# Altium integrated library Cypress PLD Ultra37000.IntLib: 166 symbols (part 3 of 12)
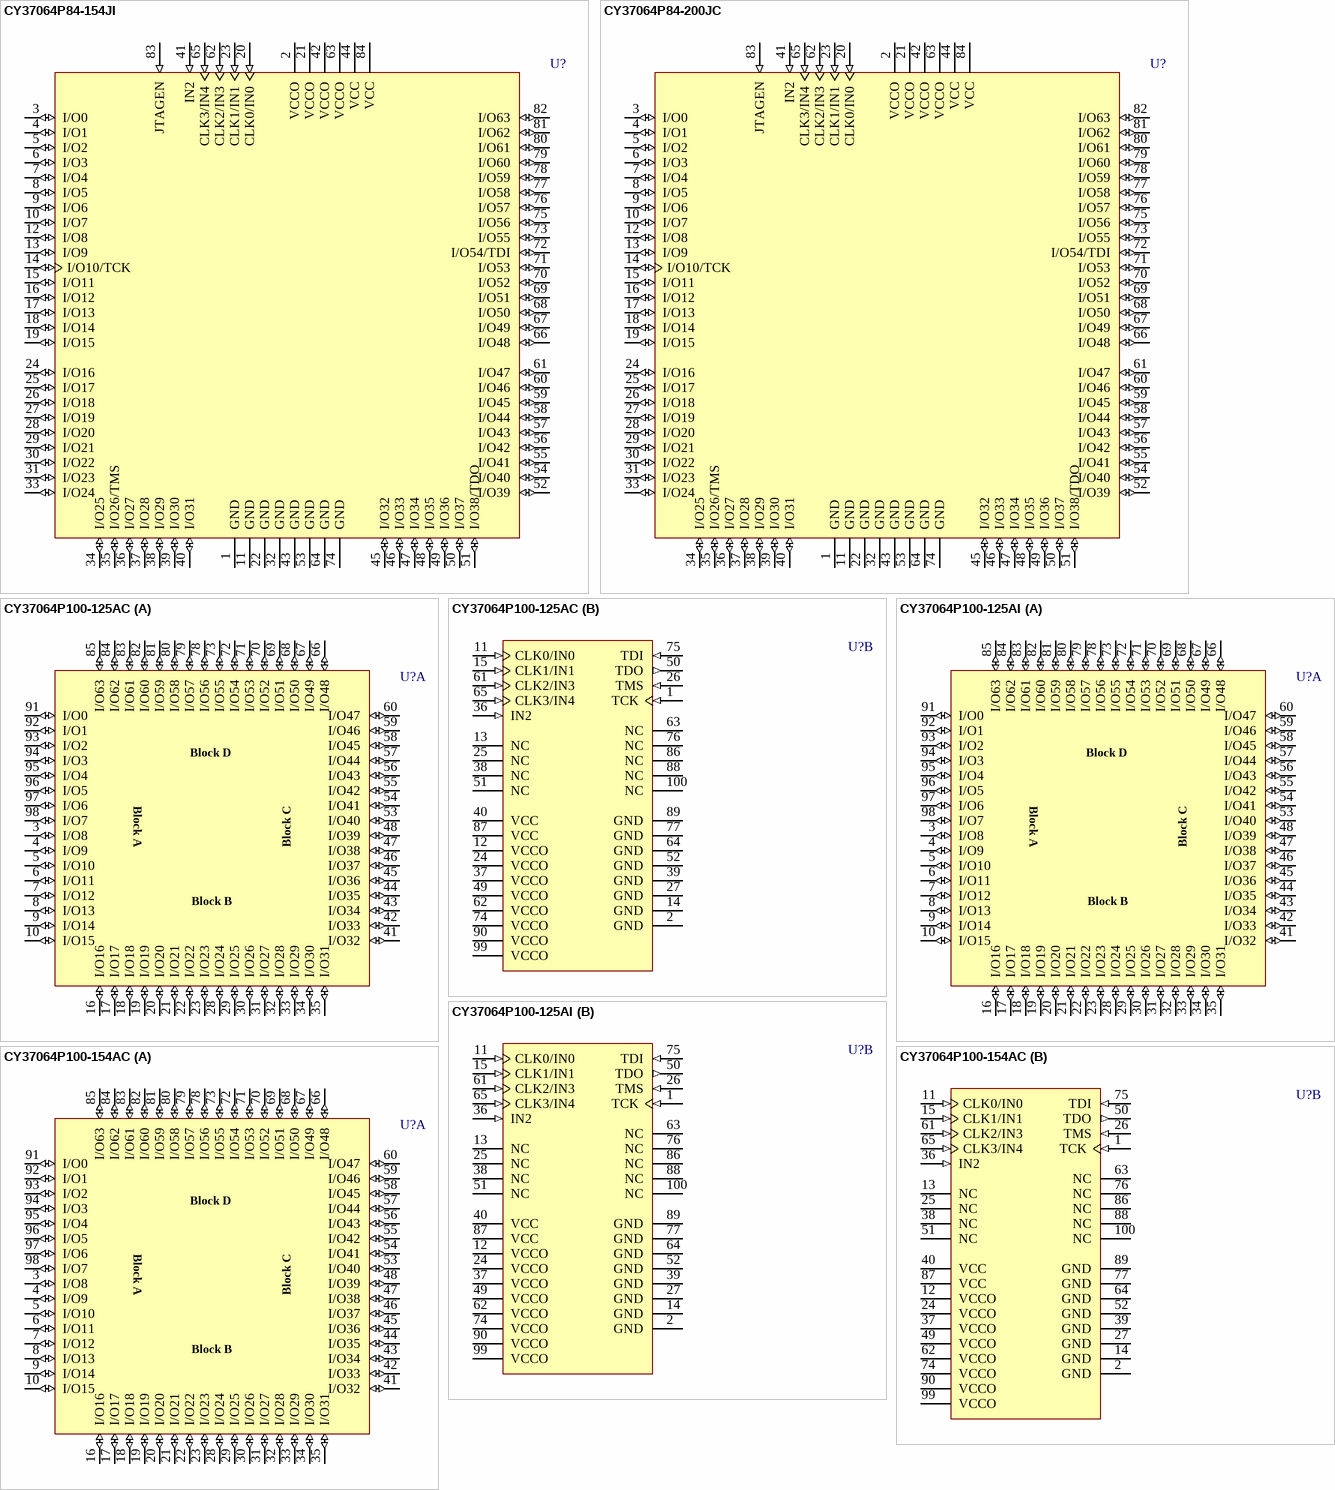
[diagram p92: symbols CY37064P84-154JI to CY37064P100-154AC]

## CY37064P100-154AC
designator U?
Ultra37000 5V, ISR High-Performance CPLD; Published: 11-Dec-2002; LatestRevisionDate: 13-Apr-2006; LatestRevisionNote: IPC-7351 Footprint Added.; DatasheetVersion: 18-Apr-2001; PackageVersion: Mar-2001; PackageReference: A100; Publisher: Altium Limited; PackageDescription: 100-Pin Thin Quad Flat Pack 0.5 mm Pitch; ComponentLink1Description: Manufacturer Link; ComponentLink1URL: http://www.cypress.com/; ComponentLink2Description: Datasheet; ComponentLink2URL: http://www.cypress.com/portal/server.pt/gateway/PTARGS_0_2_1524_209_259_43/http%3B/sjapp20.mis.cypress.com%3B7001/publishedcontent/publish/design_resources/datasheets/contents/cy37032p_5.pdf
footprint A100_N (Thin QFP, 100-Leads, Body 14x14mm, Pitch 0.5mm, IPC Medium Density)
footprint A100_L (Thin QFP, 100-Leads, Body 14x14mm, Pitch 0.5mm, IPC High Density)
footprint A100_M (Thin QFP, 100-Leads, Body 14x14mm, Pitch 0.5mm, IPC Low Density)
3D model CY37064P100-A100 (100-Pin Thin Quad Flat Pack 0.5 mm Pitch)
part A pins: 3 I/O8 (io), 4 I/O9 (io), 5 I/O10 (io), 6 I/O11 (io), 7 I/O12 (io), 8 I/O13 (io), 9 I/O14 (io), 10 I/O15 (io), 16 I/O16 (io), 17 I/O17 (io), 18 I/O18 (io), 19 I/O19 (io), 20 I/O20 (io), 21 I/O21 (io), 22 I/O22 (io), 23 I/O23 (io), 28 I/O24 (io), 29 I/O25 (io), 30 I/O26 (io), 31 I/O27 (io), 32 I/O28 (io), 33 I/O29 (io), 34 I/O30 (io), 35 I/O31 (io), 41 I/O32 (io), 42 I/O33 (io), 43 I/O34 (io), 44 I/O35 (io), 45 I/O36 (io), 46 I/O37 (io), 47 I/O38 (io), 48 I/O39 (io), 53 I/O40 (io), 54 I/O41 (io), 55 I/O42 (io), 56 I/O43 (io), 57 I/O44 (io), 58 I/O45 (io), 59 I/O46 (io), 60 I/O47 (io), 66 I/O48 (io), 67 I/O49 (io), 68 I/O50 (io), 69 I/O51 (io), 70 I/O52 (io), 71 I/O53 (io), 72 I/O54 (io), 73 I/O55 (io), 78 I/O56 (io), 79 I/O57 (io), 80 I/O58 (io), 81 I/O59 (io), 82 I/O60 (io), 83 I/O61 (io), 84 I/O62 (io), 85 I/O63 (io), 91 I/O0 (io), 92 I/O1 (io), 93 I/O2 (io), 94 I/O3 (io), 95 I/O4 (io), 96 I/O5 (io), 97 I/O6 (io), 98 I/O7 (io)
part B pins: 1 TCK (in), 2 GND (power), 11 CLK0/IN0 (in), 12 VCCO (power), 13 NC, 14 GND (power), 15 CLK1/IN1 (in), 24 VCCO (power), 25 NC, 26 TMS (in), 27 GND (power), 36 IN2 (in), 37 VCCO (power), 38 NC, 39 GND (power), 40 VCC (power), 49 VCCO (power), 50 TDO (out), 51 NC, 52 GND (power), 61 CLK2/IN3 (in), 62 VCCO (power), 63 NC, 64 GND (power), 65 CLK3/IN4 (in), 74 VCCO (power), 75 TDI (in), 76 NC, 77 GND (power), 86 NC, 87 VCC (power), 88 NC, 89 GND (power), 90 VCCO (power), 99 VCCO (power), 100 NC
part A text: Block D; Block A; Block C; Block B

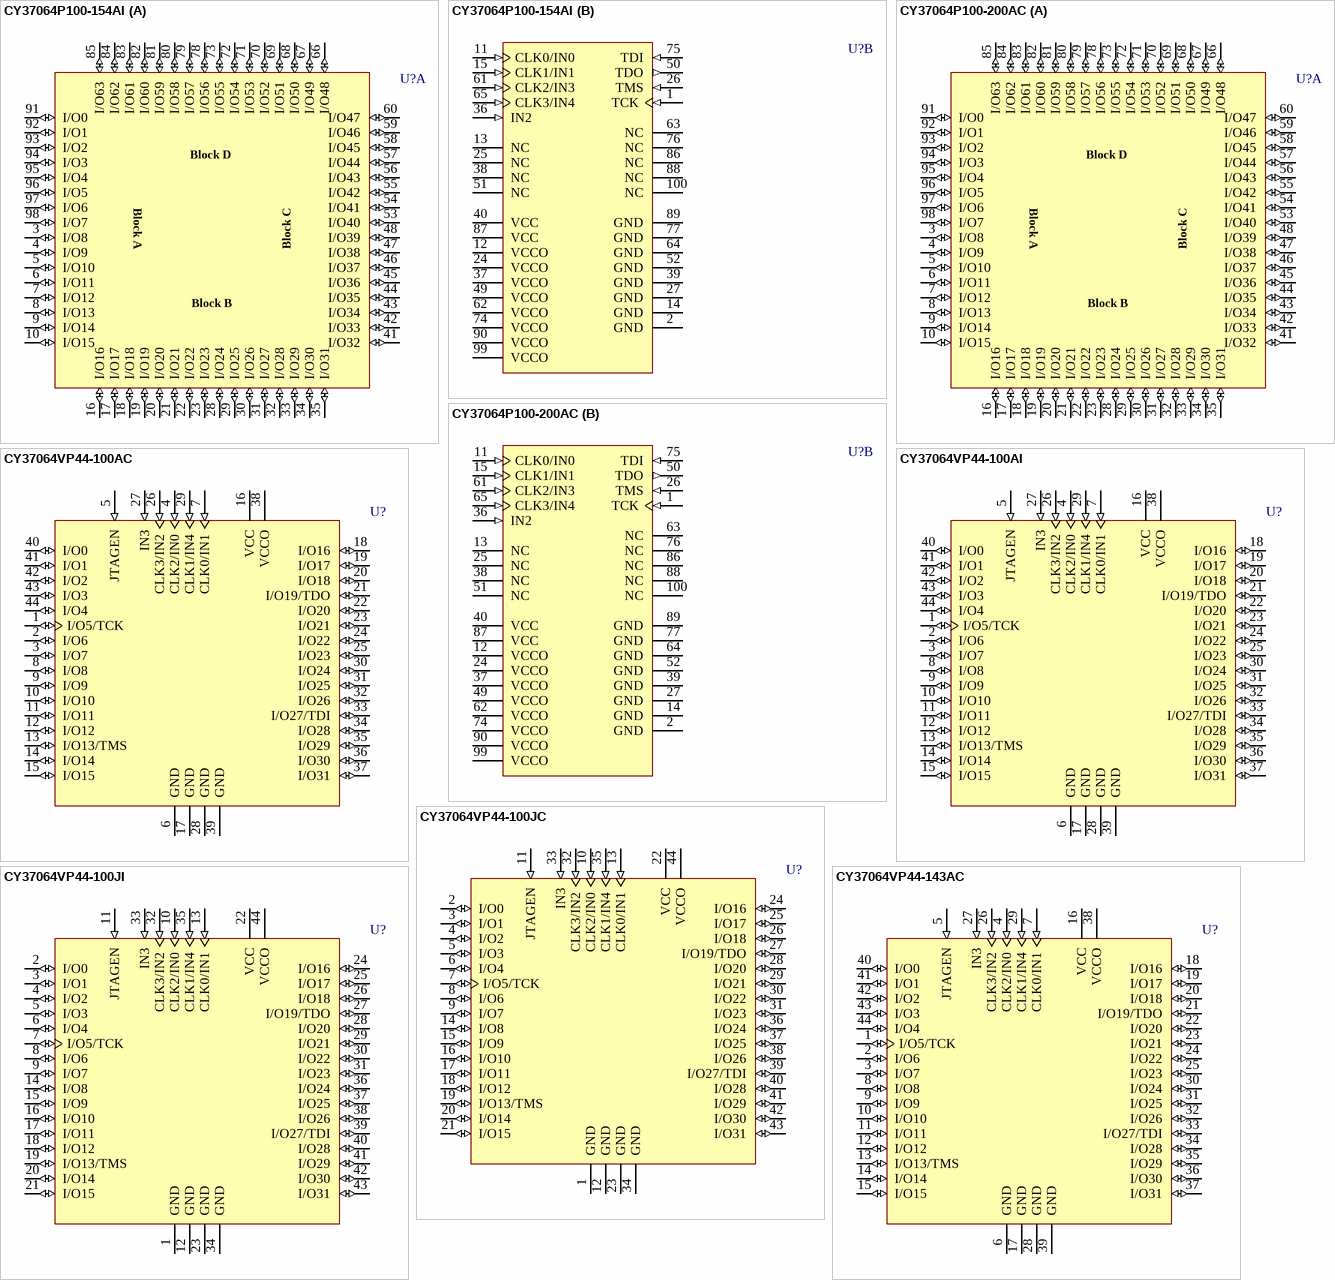
[diagram p10: symbols CY37064P100-154AI to CY37064VP44-143AC]

## CY37064P100-154AI
designator U?
Ultra37000 5V, ISR High-Performance CPLD; Published: 11-Dec-2002; LatestRevisionDate: 13-Apr-2006; LatestRevisionNote: IPC-7351 Footprint Added.; DatasheetVersion: 18-Apr-2001; PackageVersion: Mar-2001; PackageReference: A100; Publisher: Altium Limited; PackageDescription: 100-Pin Thin Quad Flat Pack 0.5 mm Pitch; ComponentLink1Description: Manufacturer Link; ComponentLink1URL: http://www.cypress.com/; ComponentLink2Description: Datasheet; ComponentLink2URL: http://www.cypress.com/portal/server.pt/gateway/PTARGS_0_2_1524_209_259_43/http%3B/sjapp20.mis.cypress.com%3B7001/publishedcontent/publish/design_resources/datasheets/contents/cy37032p_5.pdf
footprint A100_N (Thin QFP, 100-Leads, Body 14x14mm, Pitch 0.5mm, IPC Medium Density)
footprint A100_L (Thin QFP, 100-Leads, Body 14x14mm, Pitch 0.5mm, IPC High Density)
footprint A100_M (Thin QFP, 100-Leads, Body 14x14mm, Pitch 0.5mm, IPC Low Density)
3D model CY37064P100-A100 (100-Pin Thin Quad Flat Pack 0.5 mm Pitch)
part A pins: 3 I/O8 (io), 4 I/O9 (io), 5 I/O10 (io), 6 I/O11 (io), 7 I/O12 (io), 8 I/O13 (io), 9 I/O14 (io), 10 I/O15 (io), 16 I/O16 (io), 17 I/O17 (io), 18 I/O18 (io), 19 I/O19 (io), 20 I/O20 (io), 21 I/O21 (io), 22 I/O22 (io), 23 I/O23 (io), 28 I/O24 (io), 29 I/O25 (io), 30 I/O26 (io), 31 I/O27 (io), 32 I/O28 (io), 33 I/O29 (io), 34 I/O30 (io), 35 I/O31 (io), 41 I/O32 (io), 42 I/O33 (io), 43 I/O34 (io), 44 I/O35 (io), 45 I/O36 (io), 46 I/O37 (io), 47 I/O38 (io), 48 I/O39 (io), 53 I/O40 (io), 54 I/O41 (io), 55 I/O42 (io), 56 I/O43 (io), 57 I/O44 (io), 58 I/O45 (io), 59 I/O46 (io), 60 I/O47 (io), 66 I/O48 (io), 67 I/O49 (io), 68 I/O50 (io), 69 I/O51 (io), 70 I/O52 (io), 71 I/O53 (io), 72 I/O54 (io), 73 I/O55 (io), 78 I/O56 (io), 79 I/O57 (io), 80 I/O58 (io), 81 I/O59 (io), 82 I/O60 (io), 83 I/O61 (io), 84 I/O62 (io), 85 I/O63 (io), 91 I/O0 (io), 92 I/O1 (io), 93 I/O2 (io), 94 I/O3 (io), 95 I/O4 (io), 96 I/O5 (io), 97 I/O6 (io), 98 I/O7 (io)
part B pins: 1 TCK (in), 2 GND (power), 11 CLK0/IN0 (in), 12 VCCO (power), 13 NC, 14 GND (power), 15 CLK1/IN1 (in), 24 VCCO (power), 25 NC, 26 TMS (in), 27 GND (power), 36 IN2 (in), 37 VCCO (power), 38 NC, 39 GND (power), 40 VCC (power), 49 VCCO (power), 50 TDO (out), 51 NC, 52 GND (power), 61 CLK2/IN3 (in), 62 VCCO (power), 63 NC, 64 GND (power), 65 CLK3/IN4 (in), 74 VCCO (power), 75 TDI (in), 76 NC, 77 GND (power), 86 NC, 87 VCC (power), 88 NC, 89 GND (power), 90 VCCO (power), 99 VCCO (power), 100 NC
part A text: Block D; Block A; Block C; Block B

## CY37064P100-200AC
designator U?
Ultra37000 5V, ISR High-Performance CPLD; Published: 11-Dec-2002; LatestRevisionDate: 13-Apr-2006; LatestRevisionNote: IPC-7351 Footprint Added.; DatasheetVersion: 18-Apr-2001; PackageVersion: Mar-2001; PackageReference: A100; Publisher: Altium Limited; PackageDescription: 100-Pin Thin Quad Flat Pack 0.5 mm Pitch; ComponentLink1Description: Manufacturer Link; ComponentLink1URL: http://www.cypress.com/; ComponentLink2Description: Datasheet; ComponentLink2URL: http://www.cypress.com/portal/server.pt/gateway/PTARGS_0_2_1524_209_259_43/http%3B/sjapp20.mis.cypress.com%3B7001/publishedcontent/publish/design_resources/datasheets/contents/cy37032p_5.pdf
footprint A100_N (Thin QFP, 100-Leads, Body 14x14mm, Pitch 0.5mm, IPC Medium Density)
footprint A100_L (Thin QFP, 100-Leads, Body 14x14mm, Pitch 0.5mm, IPC High Density)
footprint A100_M (Thin QFP, 100-Leads, Body 14x14mm, Pitch 0.5mm, IPC Low Density)
3D model CY37064P100-A100 (100-Pin Thin Quad Flat Pack 0.5 mm Pitch)
part A pins: 3 I/O8 (io), 4 I/O9 (io), 5 I/O10 (io), 6 I/O11 (io), 7 I/O12 (io), 8 I/O13 (io), 9 I/O14 (io), 10 I/O15 (io), 16 I/O16 (io), 17 I/O17 (io), 18 I/O18 (io), 19 I/O19 (io), 20 I/O20 (io), 21 I/O21 (io), 22 I/O22 (io), 23 I/O23 (io), 28 I/O24 (io), 29 I/O25 (io), 30 I/O26 (io), 31 I/O27 (io), 32 I/O28 (io), 33 I/O29 (io), 34 I/O30 (io), 35 I/O31 (io), 41 I/O32 (io), 42 I/O33 (io), 43 I/O34 (io), 44 I/O35 (io), 45 I/O36 (io), 46 I/O37 (io), 47 I/O38 (io), 48 I/O39 (io), 53 I/O40 (io), 54 I/O41 (io), 55 I/O42 (io), 56 I/O43 (io), 57 I/O44 (io), 58 I/O45 (io), 59 I/O46 (io), 60 I/O47 (io), 66 I/O48 (io), 67 I/O49 (io), 68 I/O50 (io), 69 I/O51 (io), 70 I/O52 (io), 71 I/O53 (io), 72 I/O54 (io), 73 I/O55 (io), 78 I/O56 (io), 79 I/O57 (io), 80 I/O58 (io), 81 I/O59 (io), 82 I/O60 (io), 83 I/O61 (io), 84 I/O62 (io), 85 I/O63 (io), 91 I/O0 (io), 92 I/O1 (io), 93 I/O2 (io), 94 I/O3 (io), 95 I/O4 (io), 96 I/O5 (io), 97 I/O6 (io), 98 I/O7 (io)
part B pins: 1 TCK (in), 2 GND (power), 11 CLK0/IN0 (in), 12 VCCO (power), 13 NC, 14 GND (power), 15 CLK1/IN1 (in), 24 VCCO (power), 25 NC, 26 TMS (in), 27 GND (power), 36 IN2 (in), 37 VCCO (power), 38 NC, 39 GND (power), 40 VCC (power), 49 VCCO (power), 50 TDO (out), 51 NC, 52 GND (power), 61 CLK2/IN3 (in), 62 VCCO (power), 63 NC, 64 GND (power), 65 CLK3/IN4 (in), 74 VCCO (power), 75 TDI (in), 76 NC, 77 GND (power), 86 NC, 87 VCC (power), 88 NC, 89 GND (power), 90 VCCO (power), 99 VCCO (power), 100 NC
part A text: Block D; Block A; Block C; Block B

## CY37064VP44-100AC
designator U?
Ultra37000 3.3V, ISR High-Performance CPLD; Published: 11-Dec-2002; LatestRevisionDate: 13-Apr-2006; LatestRevisionNote: IPC-7351 Footprint Added.; DatasheetVersion: 18-Apr-2001; PackageVersion: Mar-2002; PackageReference: A44; Publisher: Altium Limited; PackageDescription: 44-Pin Thin Plastic Quad Flat Pack 0.8 mm Pitch; ComponentLink1Description: Manufacturer Link; ComponentLink1URL: http://www.cypress.com/; ComponentLink2Description: Datasheet; ComponentLink2URL: http://www.cypress.com/portal/server.pt/gateway/PTARGS_0_2_1524_209_259_43/http%3B/sjapp20.mis.cypress.com%3B7001/publishedcontent/publish/design_resources/datasheets/contents/cy37032p_5.pdf
footprint A44_N (Thin QFP, 44-Leads, Body 10x10mm, Pitch 0.8mm, IPC Medium Density)
footprint A44_L (Thin QFP, 44-Leads, Body 10x10mm, Pitch 0.8mm, IPC High Density)
footprint A44_M (Thin QFP, 44-Leads, Body 10x10mm, Pitch 0.8mm, IPC Low Density)
3D model CY37064VP44-A44 (44-Pin Thin Plastic Quad Flat Pack 0.8 mm Pitch)
pins: 1 I/O5/TCK (io), 2 I/O6 (io), 3 I/O7 (io), 4 CLK2/IN0 (in), 5 JTAGEN (in), 6 GND (power), 7 CLK0/IN1 (in), 8 I/O8 (io), 9 I/O9 (io), 10 I/O10 (io), 11 I/O11 (io), 12 I/O12 (io), 13 I/O13/TMS (io), 14 I/O14 (io), 15 I/O15 (io), 16 VCC (power), 17 GND (power), 18 I/O16 (io), 19 I/O17 (io), 20 I/O18 (io), 21 I/O19/TDO (io), 22 I/O20 (io), 23 I/O21 (io), 24 I/O22 (io), 25 I/O23 (io), 26 CLK3/IN2 (in), 27 IN3 (in), 28 GND (power), 29 CLK1/IN4 (in), 30 I/O24 (io), 31 I/O25 (io), 32 I/O26 (io), 33 I/O27/TDI (io), 34 I/O28 (io), 35 I/O29 (io), 36 I/O30 (io), 37 I/O31 (io), 38 VCCO (power), 39 GND (power), 40 I/O0 (io), 41 I/O1 (io), 42 I/O2 (io), 43 I/O3 (io), 44 I/O4 (io)

## CY37064VP44-100AI
designator U?
Ultra37000 3.3V, ISR High-Performance CPLD; Published: 11-Dec-2002; LatestRevisionDate: 13-Apr-2006; LatestRevisionNote: IPC-7351 Footprint Added.; DatasheetVersion: 18-Apr-2001; PackageVersion: Mar-2002; PackageReference: A44; Publisher: Altium Limited; PackageDescription: 44-Pin Thin Plastic Quad Flat Pack 0.8 mm Pitch; ComponentLink1Description: Manufacturer Link; ComponentLink1URL: http://www.cypress.com/; ComponentLink2Description: Datasheet; ComponentLink2URL: http://www.cypress.com/portal/server.pt/gateway/PTARGS_0_2_1524_209_259_43/http%3B/sjapp20.mis.cypress.com%3B7001/publishedcontent/publish/design_resources/datasheets/contents/cy37032p_5.pdf
footprint A44_N (Thin QFP, 44-Leads, Body 10x10mm, Pitch 0.8mm, IPC Medium Density)
footprint A44_L (Thin QFP, 44-Leads, Body 10x10mm, Pitch 0.8mm, IPC High Density)
footprint A44_M (Thin QFP, 44-Leads, Body 10x10mm, Pitch 0.8mm, IPC Low Density)
3D model CY37064VP44-A44 (44-Pin Thin Plastic Quad Flat Pack 0.8 mm Pitch)
pins: 1 I/O5/TCK (io), 2 I/O6 (io), 3 I/O7 (io), 4 CLK2/IN0 (in), 5 JTAGEN (in), 6 GND (power), 7 CLK0/IN1 (in), 8 I/O8 (io), 9 I/O9 (io), 10 I/O10 (io), 11 I/O11 (io), 12 I/O12 (io), 13 I/O13/TMS (io), 14 I/O14 (io), 15 I/O15 (io), 16 VCC (power), 17 GND (power), 18 I/O16 (io), 19 I/O17 (io), 20 I/O18 (io), 21 I/O19/TDO (io), 22 I/O20 (io), 23 I/O21 (io), 24 I/O22 (io), 25 I/O23 (io), 26 CLK3/IN2 (in), 27 IN3 (in), 28 GND (power), 29 CLK1/IN4 (in), 30 I/O24 (io), 31 I/O25 (io), 32 I/O26 (io), 33 I/O27/TDI (io), 34 I/O28 (io), 35 I/O29 (io), 36 I/O30 (io), 37 I/O31 (io), 38 VCCO (power), 39 GND (power), 40 I/O0 (io), 41 I/O1 (io), 42 I/O2 (io), 43 I/O3 (io), 44 I/O4 (io)

## CY37064VP44-100JC
designator U?
Ultra37000 3.3V, ISR High-Performance CPLD; ComponentAvailability: Obsolete; Published: 11-Dec-2002; LatestRevisionDate: 13-Apr-2006; LatestRevisionNote: IPC-7351 Footprint Added.; DatasheetVersion: 18-Apr-2001; PackageVersion: Mar-2001; PackageReference: J67; Publisher: Altium Limited; PackageDescription: 44-Pin Plastic Leaded Chip Carrier 1.27 mm Pitch; ComponentLink1Description: Manufacturer Link; ComponentLink1URL: http://www.cypress.com/; ComponentLink2Description: Datasheet; ComponentLink2URL: http://www.cypress.com/portal/server.pt/gateway/PTARGS_0_2_1524_209_259_43/http%3B/sjapp20.mis.cypress.com%3B7001/publishedcontent/publish/design_resources/datasheets/contents/cy37032p_5.pdf
footprint J67_N (Leaded Chip Carrier, 44-Leads, Body 16.6x16.6mm, Pitch 1.27mm, IPC Medium Density)
footprint J67_L (Leaded Chip Carrier, 44-Leads, Body 16.6x16.6mm, Pitch 1.27mm, IPC High Density)
footprint J67_M (Leaded Chip Carrier, 44-Leads, Body 16.6x16.6mm, Pitch 1.27mm, IPC Low Density)
3D model CY37064VP44-J67 (44-Pin Plastic Leaded Chip Carrier 1.27 mm Pitch)
pins: 1 GND (power), 2 I/O0 (io), 3 I/O1 (io), 4 I/O2 (io), 5 I/O3 (io), 6 I/O4 (io), 7 I/O5/TCK (io), 8 I/O6 (io), 9 I/O7 (io), 10 CLK2/IN0 (in), 11 JTAGEN (in), 12 GND (power), 13 CLK0/IN1 (in), 14 I/O8 (io), 15 I/O9 (io), 16 I/O10 (io), 17 I/O11 (io), 18 I/O12 (io), 19 I/O13/TMS (io), 20 I/O14 (io), 21 I/O15 (io), 22 VCC (power), 23 GND (power), 24 I/O16 (io), 25 I/O17 (io), 26 I/O18 (io), 27 I/O19/TDO (io), 28 I/O20 (io), 29 I/O21 (io), 30 I/O22 (io), 31 I/O23 (io), 32 CLK3/IN2 (in), 33 IN3 (in), 34 GND (power), 35 CLK1/IN4 (in), 36 I/O24 (io), 37 I/O25 (io), 38 I/O26 (io), 39 I/O27/TDI (io), 40 I/O28 (io), 41 I/O29 (io), 42 I/O30 (io), 43 I/O31 (io), 44 VCCO (power)

## CY37064VP44-100JI
designator U?
Ultra37000 3.3V, ISR High-Performance CPLD; ComponentAvailability: Obsolete; Published: 11-Dec-2002; LatestRevisionDate: 13-Apr-2006; LatestRevisionNote: IPC-7351 Footprint Added.; DatasheetVersion: 18-Apr-2001; PackageVersion: Mar-2001; PackageReference: J67; Publisher: Altium Limited; PackageDescription: 44-Pin Plastic Leaded Chip Carrier 1.27 mm Pitch; ComponentLink1Description: Manufacturer Link; ComponentLink1URL: http://www.cypress.com/; ComponentLink2Description: Datasheet; ComponentLink2URL: http://www.cypress.com/portal/server.pt/gateway/PTARGS_0_2_1524_209_259_43/http%3B/sjapp20.mis.cypress.com%3B7001/publishedcontent/publish/design_resources/datasheets/contents/cy37032p_5.pdf
footprint J67_N (Leaded Chip Carrier, 44-Leads, Body 16.6x16.6mm, Pitch 1.27mm, IPC Medium Density)
footprint J67_L (Leaded Chip Carrier, 44-Leads, Body 16.6x16.6mm, Pitch 1.27mm, IPC High Density)
footprint J67_M (Leaded Chip Carrier, 44-Leads, Body 16.6x16.6mm, Pitch 1.27mm, IPC Low Density)
3D model CY37064VP44-J67 (44-Pin Plastic Leaded Chip Carrier 1.27 mm Pitch)
pins: 1 GND (power), 2 I/O0 (io), 3 I/O1 (io), 4 I/O2 (io), 5 I/O3 (io), 6 I/O4 (io), 7 I/O5/TCK (io), 8 I/O6 (io), 9 I/O7 (io), 10 CLK2/IN0 (in), 11 JTAGEN (in), 12 GND (power), 13 CLK0/IN1 (in), 14 I/O8 (io), 15 I/O9 (io), 16 I/O10 (io), 17 I/O11 (io), 18 I/O12 (io), 19 I/O13/TMS (io), 20 I/O14 (io), 21 I/O15 (io), 22 VCC (power), 23 GND (power), 24 I/O16 (io), 25 I/O17 (io), 26 I/O18 (io), 27 I/O19/TDO (io), 28 I/O20 (io), 29 I/O21 (io), 30 I/O22 (io), 31 I/O23 (io), 32 CLK3/IN2 (in), 33 IN3 (in), 34 GND (power), 35 CLK1/IN4 (in), 36 I/O24 (io), 37 I/O25 (io), 38 I/O26 (io), 39 I/O27/TDI (io), 40 I/O28 (io), 41 I/O29 (io), 42 I/O30 (io), 43 I/O31 (io), 44 VCCO (power)

## CY37064VP44-143AC
designator U?
Ultra37000 3.3V, ISR High-Performance CPLD; Published: 11-Dec-2002; LatestRevisionDate: 13-Apr-2006; LatestRevisionNote: IPC-7351 Footprint Added.; DatasheetVersion: 18-Apr-2001; PackageVersion: Mar-2002; PackageReference: A44; Publisher: Altium Limited; PackageDescription: 44-Pin Thin Plastic Quad Flat Pack 0.8 mm Pitch; ComponentLink1Description: Manufacturer Link; ComponentLink1URL: http://www.cypress.com/; ComponentLink2Description: Datasheet; ComponentLink2URL: http://www.cypress.com/portal/server.pt/gateway/PTARGS_0_2_1524_209_259_43/http%3B/sjapp20.mis.cypress.com%3B7001/publishedcontent/publish/design_resources/datasheets/contents/cy37032p_5.pdf
footprint A44_N (Thin QFP, 44-Leads, Body 10x10mm, Pitch 0.8mm, IPC Medium Density)
footprint A44_L (Thin QFP, 44-Leads, Body 10x10mm, Pitch 0.8mm, IPC High Density)
footprint A44_M (Thin QFP, 44-Leads, Body 10x10mm, Pitch 0.8mm, IPC Low Density)
3D model CY37064VP44-A44 (44-Pin Thin Plastic Quad Flat Pack 0.8 mm Pitch)
pins: 1 I/O5/TCK (io), 2 I/O6 (io), 3 I/O7 (io), 4 CLK2/IN0 (in), 5 JTAGEN (in), 6 GND (power), 7 CLK0/IN1 (in), 8 I/O8 (io), 9 I/O9 (io), 10 I/O10 (io), 11 I/O11 (io), 12 I/O12 (io), 13 I/O13/TMS (io), 14 I/O14 (io), 15 I/O15 (io), 16 VCC (power), 17 GND (power), 18 I/O16 (io), 19 I/O17 (io), 20 I/O18 (io), 21 I/O19/TDO (io), 22 I/O20 (io), 23 I/O21 (io), 24 I/O22 (io), 25 I/O23 (io), 26 CLK3/IN2 (in), 27 IN3 (in), 28 GND (power), 29 CLK1/IN4 (in), 30 I/O24 (io), 31 I/O25 (io), 32 I/O26 (io), 33 I/O27/TDI (io), 34 I/O28 (io), 35 I/O29 (io), 36 I/O30 (io), 37 I/O31 (io), 38 VCCO (power), 39 GND (power), 40 I/O0 (io), 41 I/O1 (io), 42 I/O2 (io), 43 I/O3 (io), 44 I/O4 (io)

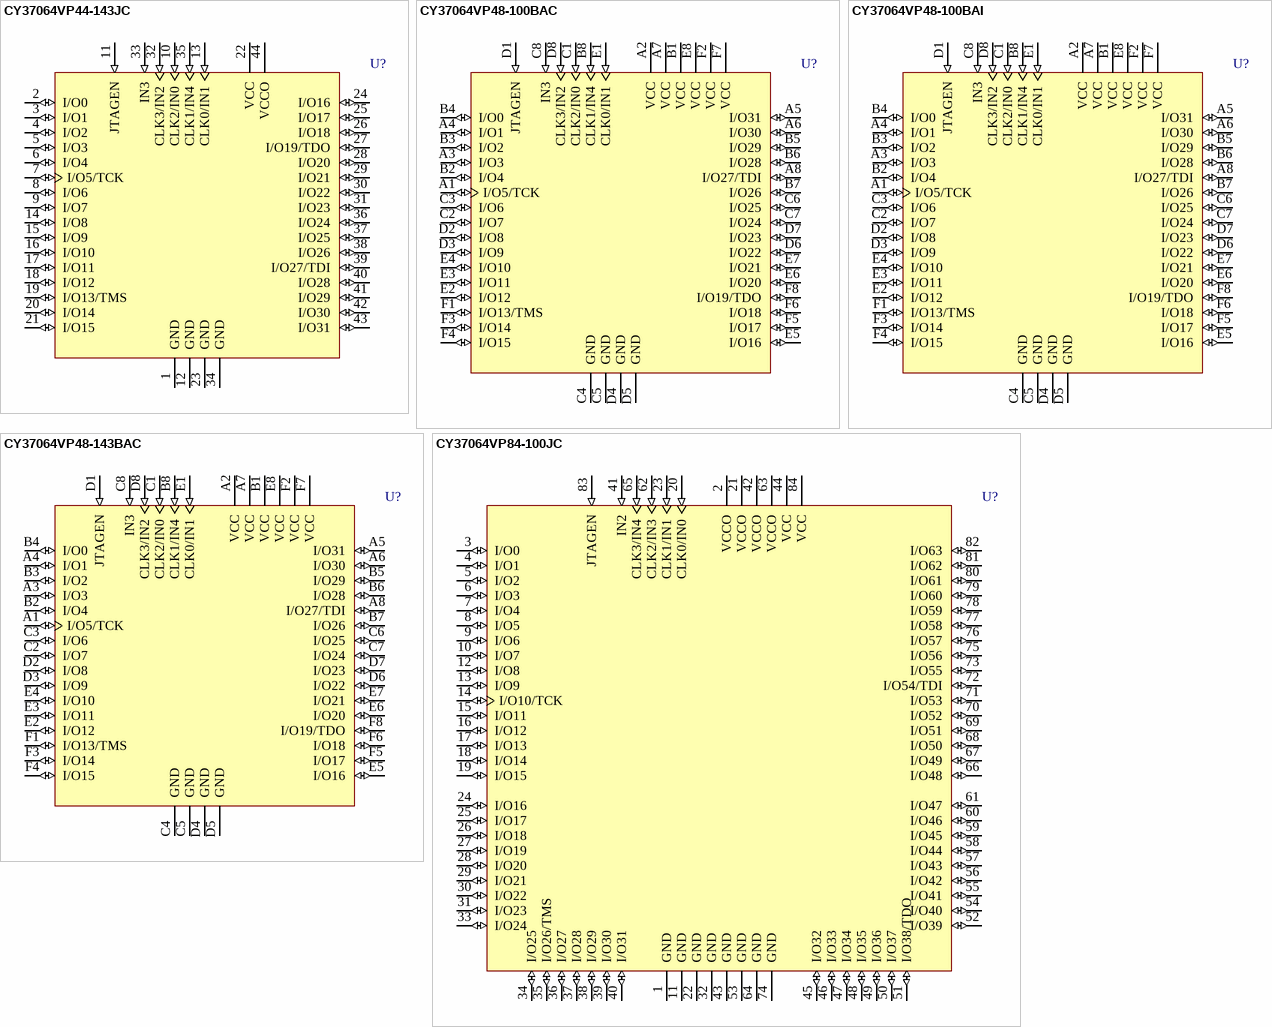
[diagram p11: symbols CY37064VP44-143JC to CY37064VP84-100JC]

## CY37064VP44-143JC
designator U?
Ultra37000 3.3V, ISR High-Performance CPLD; ComponentAvailability: Obsolete; Published: 11-Dec-2002; LatestRevisionDate: 13-Apr-2006; LatestRevisionNote: IPC-7351 Footprint Added.; DatasheetVersion: 18-Apr-2001; PackageVersion: Mar-2001; PackageReference: J67; Publisher: Altium Limited; PackageDescription: 44-Pin Plastic Leaded Chip Carrier 1.27 mm Pitch; ComponentLink1Description: Manufacturer Link; ComponentLink1URL: http://www.cypress.com/; ComponentLink2Description: Datasheet; ComponentLink2URL: http://www.cypress.com/portal/server.pt/gateway/PTARGS_0_2_1524_209_259_43/http%3B/sjapp20.mis.cypress.com%3B7001/publishedcontent/publish/design_resources/datasheets/contents/cy37032p_5.pdf
footprint J67_N (Leaded Chip Carrier, 44-Leads, Body 16.6x16.6mm, Pitch 1.27mm, IPC Medium Density)
footprint J67_L (Leaded Chip Carrier, 44-Leads, Body 16.6x16.6mm, Pitch 1.27mm, IPC High Density)
footprint J67_M (Leaded Chip Carrier, 44-Leads, Body 16.6x16.6mm, Pitch 1.27mm, IPC Low Density)
3D model CY37064VP44-J67 (44-Pin Plastic Leaded Chip Carrier 1.27 mm Pitch)
pins: 1 GND (power), 2 I/O0 (io), 3 I/O1 (io), 4 I/O2 (io), 5 I/O3 (io), 6 I/O4 (io), 7 I/O5/TCK (io), 8 I/O6 (io), 9 I/O7 (io), 10 CLK2/IN0 (in), 11 JTAGEN (in), 12 GND (power), 13 CLK0/IN1 (in), 14 I/O8 (io), 15 I/O9 (io), 16 I/O10 (io), 17 I/O11 (io), 18 I/O12 (io), 19 I/O13/TMS (io), 20 I/O14 (io), 21 I/O15 (io), 22 VCC (power), 23 GND (power), 24 I/O16 (io), 25 I/O17 (io), 26 I/O18 (io), 27 I/O19/TDO (io), 28 I/O20 (io), 29 I/O21 (io), 30 I/O22 (io), 31 I/O23 (io), 32 CLK3/IN2 (in), 33 IN3 (in), 34 GND (power), 35 CLK1/IN4 (in), 36 I/O24 (io), 37 I/O25 (io), 38 I/O26 (io), 39 I/O27/TDI (io), 40 I/O28 (io), 41 I/O29 (io), 42 I/O30 (io), 43 I/O31 (io), 44 VCCO (power)

## CY37064VP48-100BAC
designator U?
Ultra37000 3.3V, ISR High-Performance CPLD; Published: 11-Dec-2002; LatestRevisionDate: 13-Apr-2006; LatestRevisionNote: IPC-7351 Footprint Added.; DatasheetVersion: 18-Apr-2001; PackageVersion: Mar-2001; PackageReference: BA50; Publisher: Altium Limited; PackageDescription: 48-Ball Thin Ball Grid Array 0.8 mm Pitch; ComponentLink1Description: Manufacturer Link; ComponentLink1URL: http://www.cypress.com/; ComponentLink2Description: Datasheet; ComponentLink2URL: http://www.cypress.com/portal/server.pt/gateway/PTARGS_0_2_1524_209_259_43/http%3B/sjapp20.mis.cypress.com%3B7001/publishedcontent/publish/design_resources/datasheets/contents/cy37032p_5.pdf
footprint BA50 (BGA, 48-Leads, Body 7x7mm, Pitch 0.8mm)
3D model CY37064VP48-BA50 (48-Ball Thin Ball Grid Array 0.8 mm Pitch)
pins: A1 I/O5/TCK (io), A2 VCC (power), A3 I/O3 (io), A4 I/O1 (io), A5 I/O31 (io), A6 I/O30 (io), A7 VCC (power), A8 I/O27/TDI (io), B1 VCC (power), B2 I/O4 (io), B3 I/O2 (io), B4 I/O0 (io), B5 I/O29 (io), B6 I/O28 (io), B7 I/O26 (io), B8 CLK1/IN4 (in), C1 CLK2/IN0 (in), C2 I/O7 (io), C3 I/O6 (io), C4 GND (power), C5 GND (power), C6 I/O25 (io), C7 I/O24 (io), C8 IN3 (in), D1 JTAGEN (in), D2 I/O8 (io), D3 I/O9 (io), D4 GND (power), D5 GND (power), D6 I/O22 (io), D7 I/O23 (io), D8 CLK3/IN2 (in), E1 CLK0/IN1 (in), E2 I/O12 (io), E3 I/O11 (io), E4 I/O10 (io), E5 I/O16 (io), E6 I/O20 (io), E7 I/O21 (io), E8 VCC (power), F1 I/O13/TMS (io), F2 VCC (power), F3 I/O14 (io), F4 I/O15 (io), F5 I/O17 (io), F6 I/O18 (io), F7 VCC (power), F8 I/O19/TDO (io)

## CY37064VP48-100BAI
designator U?
Ultra37000 3.3V, ISR High-Performance CPLD; Published: 11-Dec-2002; LatestRevisionDate: 13-Apr-2006; LatestRevisionNote: IPC-7351 Footprint Added.; DatasheetVersion: 18-Apr-2001; PackageVersion: Mar-2001; PackageReference: BA50; Publisher: Altium Limited; PackageDescription: 48-Ball Thin Ball Grid Array 0.8 mm Pitch; ComponentLink1Description: Manufacturer Link; ComponentLink1URL: http://www.cypress.com/; ComponentLink2Description: Datasheet; ComponentLink2URL: http://www.cypress.com/portal/server.pt/gateway/PTARGS_0_2_1524_209_259_43/http%3B/sjapp20.mis.cypress.com%3B7001/publishedcontent/publish/design_resources/datasheets/contents/cy37032p_5.pdf
footprint BA50 (BGA, 48-Leads, Body 7x7mm, Pitch 0.8mm)
3D model CY37064VP48-BA50 (48-Ball Thin Ball Grid Array 0.8 mm Pitch)
pins: A1 I/O5/TCK (io), A2 VCC (power), A3 I/O3 (io), A4 I/O1 (io), A5 I/O31 (io), A6 I/O30 (io), A7 VCC (power), A8 I/O27/TDI (io), B1 VCC (power), B2 I/O4 (io), B3 I/O2 (io), B4 I/O0 (io), B5 I/O29 (io), B6 I/O28 (io), B7 I/O26 (io), B8 CLK1/IN4 (in), C1 CLK2/IN0 (in), C2 I/O7 (io), C3 I/O6 (io), C4 GND (power), C5 GND (power), C6 I/O25 (io), C7 I/O24 (io), C8 IN3 (in), D1 JTAGEN (in), D2 I/O8 (io), D3 I/O9 (io), D4 GND (power), D5 GND (power), D6 I/O22 (io), D7 I/O23 (io), D8 CLK3/IN2 (in), E1 CLK0/IN1 (in), E2 I/O12 (io), E3 I/O11 (io), E4 I/O10 (io), E5 I/O16 (io), E6 I/O20 (io), E7 I/O21 (io), E8 VCC (power), F1 I/O13/TMS (io), F2 VCC (power), F3 I/O14 (io), F4 I/O15 (io), F5 I/O17 (io), F6 I/O18 (io), F7 VCC (power), F8 I/O19/TDO (io)

## CY37064VP48-143BAC
designator U?
Ultra37000 3.3V, ISR High-Performance CPLD; Published: 11-Dec-2002; LatestRevisionDate: 13-Apr-2006; LatestRevisionNote: IPC-7351 Footprint Added.; DatasheetVersion: 18-Apr-2001; PackageVersion: Mar-2001; PackageReference: BA50; Publisher: Altium Limited; PackageDescription: 48-Ball Thin Ball Grid Array 0.8 mm Pitch; ComponentLink1Description: Manufacturer Link; ComponentLink1URL: http://www.cypress.com/; ComponentLink2Description: Datasheet; ComponentLink2URL: http://www.cypress.com/portal/server.pt/gateway/PTARGS_0_2_1524_209_259_43/http%3B/sjapp20.mis.cypress.com%3B7001/publishedcontent/publish/design_resources/datasheets/contents/cy37032p_5.pdf
footprint BA50 (BGA, 48-Leads, Body 7x7mm, Pitch 0.8mm)
3D model CY37064VP48-BA50 (48-Ball Thin Ball Grid Array 0.8 mm Pitch)
pins: A1 I/O5/TCK (io), A2 VCC (power), A3 I/O3 (io), A4 I/O1 (io), A5 I/O31 (io), A6 I/O30 (io), A7 VCC (power), A8 I/O27/TDI (io), B1 VCC (power), B2 I/O4 (io), B3 I/O2 (io), B4 I/O0 (io), B5 I/O29 (io), B6 I/O28 (io), B7 I/O26 (io), B8 CLK1/IN4 (in), C1 CLK2/IN0 (in), C2 I/O7 (io), C3 I/O6 (io), C4 GND (power), C5 GND (power), C6 I/O25 (io), C7 I/O24 (io), C8 IN3 (in), D1 JTAGEN (in), D2 I/O8 (io), D3 I/O9 (io), D4 GND (power), D5 GND (power), D6 I/O22 (io), D7 I/O23 (io), D8 CLK3/IN2 (in), E1 CLK0/IN1 (in), E2 I/O12 (io), E3 I/O11 (io), E4 I/O10 (io), E5 I/O16 (io), E6 I/O20 (io), E7 I/O21 (io), E8 VCC (power), F1 I/O13/TMS (io), F2 VCC (power), F3 I/O14 (io), F4 I/O15 (io), F5 I/O17 (io), F6 I/O18 (io), F7 VCC (power), F8 I/O19/TDO (io)

## CY37064VP84-100JC
designator U?
Ultra37000 3.3V, ISR High-Performance CPLD; ComponentAvailability: Obsolete; Published: 11-Dec-2002; LatestRevisionDate: 13-Apr-2006; LatestRevisionNote: IPC-7351 Footprint Added.; DatasheetVersion: 18-Apr-2001; PackageVersion: Mar-2001; PackageReference: J83; Publisher: Altium Limited; PackageDescription: 84-Pin Plastic Leaded Chip Carrier 1.27 mm Pitch; Code_IPC: PLCC-84; ComponentLink1Description: Manufacturer Link; ComponentLink1URL: http://www.cypress.com/; ComponentLink2Description: Datasheet; ComponentLink2URL: http://www.cypress.com/portal/server.pt/gateway/PTARGS_0_2_1524_209_259_43/http%3B/sjapp20.mis.cypress.com%3B7001/publishedcontent/publish/design_resources/datasheets/contents/cy37032p_5.pdf
footprint J83_N (Leaded Chip Carrier, 84-Leads, Body 29.3x29.3mm, Pitch 1.27mm, IPC Medium Density)
footprint J83_L (Leaded Chip Carrier, 84-Leads, Body 29.3x29.3mm, Pitch 1.27mm, IPC High Density)
footprint J83_M (Leaded Chip Carrier, 84-Leads, Body 29.3x29.3mm, Pitch 1.27mm, IPC Low Density)
3D model CY37064VP84-J83 (84-Pin Plastic Leaded Chip Carrier 1.27 mm Pitch)
pins: 1 GND (power), 2 VCCO (power), 3 I/O0 (io), 4 I/O1 (io), 5 I/O2 (io), 6 I/O3 (io), 7 I/O4 (io), 8 I/O5 (io), 9 I/O6 (io), 10 I/O7 (io), 11 GND (power), 12 I/O8 (io), 13 I/O9 (io), 14 I/O10/TCK (io), 15 I/O11 (io), 16 I/O12 (io), 17 I/O13 (io), 18 I/O14 (io), 19 I/O15 (io), 20 CLK0/IN0 (in), 21 VCCO (power), 22 GND (power), 23 CLK1/IN1 (in), 24 I/O16 (io), 25 I/O17 (io), 26 I/O18 (io), 27 I/O19 (io), 28 I/O20 (io), 29 I/O21 (io), 30 I/O22 (io), 31 I/O23 (io), 32 GND (power), 33 I/O24 (io), 34 I/O25 (io), 35 I/O26/TMS (io), 36 I/O27 (io), 37 I/O28 (io), 38 I/O29 (io), 39 I/O30 (io), 40 I/O31 (io), 41 IN2 (in), 42 VCCO (power), 43 GND (power), 44 VCC (power), 45 I/O32 (io), 46 I/O33 (io), 47 I/O34 (io), 48 I/O35 (io), 49 I/O36 (io), 50 I/O37 (io), 51 I/O38/TDO (io), 52 I/O39 (io), 53 GND (power), 54 I/O40 (io), 55 I/O41 (io), 56 I/O42 (io), 57 I/O43 (io), 58 I/O44 (io), 59 I/O45 (io), 60 I/O46 (io), 61 I/O47 (io), 62 CLK2/IN3 (in), 63 VCCO (power), 64 GND (power), 65 CLK3/IN4 (in), 66 I/O48 (io), 67 I/O49 (io), 68 I/O50 (io), 69 I/O51 (io), 70 I/O52 (io), 71 I/O53 (io), 72 I/O54/TDI (io), 73 I/O55 (io), 74 GND (power), 75 I/O56 (io), 76 I/O57 (io), 77 I/O58 (io), 78 I/O59 (io), 79 I/O60 (io), 80 I/O61 (io), 81 I/O62 (io), 82 I/O63 (io), 83 JTAGEN (in), 84 VCC (power)

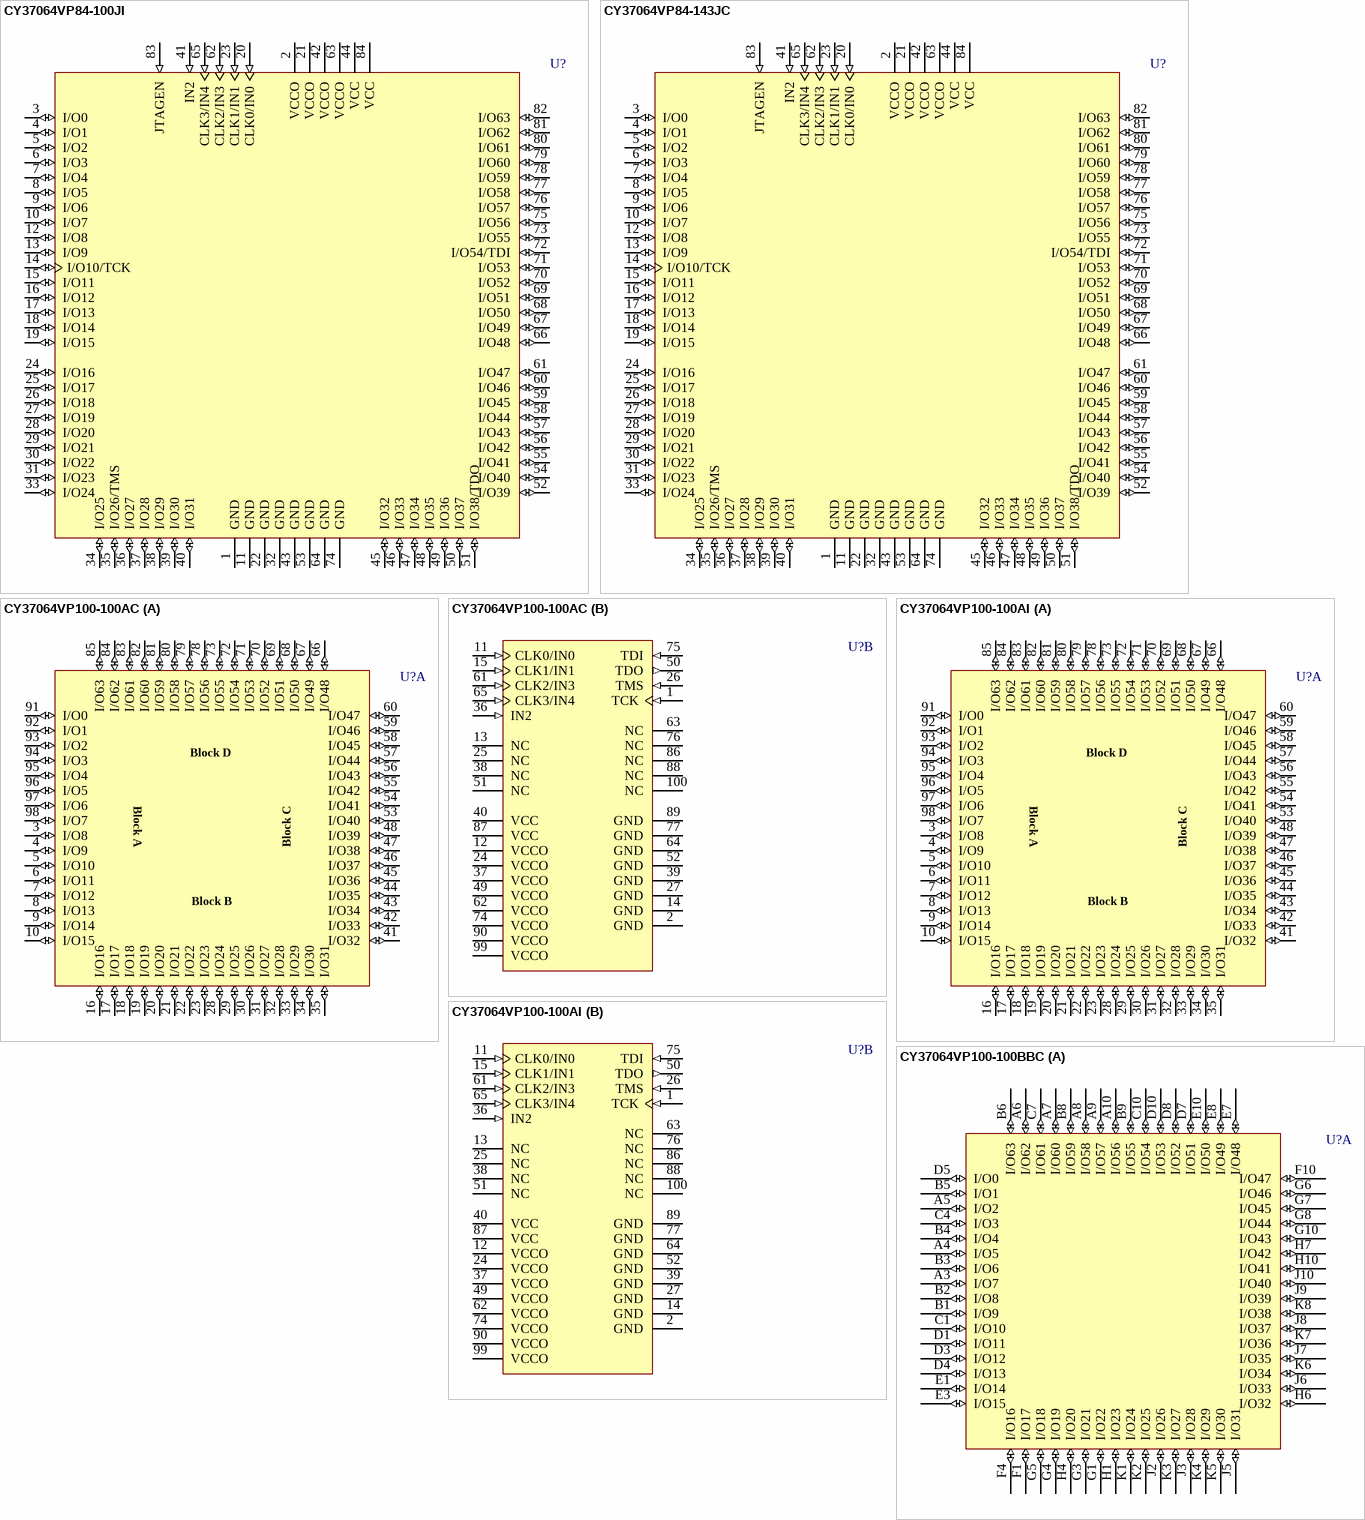
[diagram p12: symbols CY37064VP84-100JI to CY37064VP100-100BBC]

## CY37064VP84-100JI
designator U?
Ultra37000 3.3V, ISR High-Performance CPLD; ComponentAvailability: Obsolete; Published: 11-Dec-2002; LatestRevisionDate: 13-Apr-2006; LatestRevisionNote: IPC-7351 Footprint Added.; DatasheetVersion: 18-Apr-2001; PackageVersion: Mar-2001; PackageReference: J83; Publisher: Altium Limited; PackageDescription: 84-Pin Plastic Leaded Chip Carrier 1.27 mm Pitch; Code_IPC: PLCC-84; ComponentLink1Description: Manufacturer Link; ComponentLink1URL: http://www.cypress.com/; ComponentLink2Description: Datasheet; ComponentLink2URL: http://www.cypress.com/portal/server.pt/gateway/PTARGS_0_2_1524_209_259_43/http%3B/sjapp20.mis.cypress.com%3B7001/publishedcontent/publish/design_resources/datasheets/contents/cy37032p_5.pdf
footprint J83_N (Leaded Chip Carrier, 84-Leads, Body 29.3x29.3mm, Pitch 1.27mm, IPC Medium Density)
footprint J83_L (Leaded Chip Carrier, 84-Leads, Body 29.3x29.3mm, Pitch 1.27mm, IPC High Density)
footprint J83_M (Leaded Chip Carrier, 84-Leads, Body 29.3x29.3mm, Pitch 1.27mm, IPC Low Density)
3D model CY37064VP84-J83 (84-Pin Plastic Leaded Chip Carrier 1.27 mm Pitch)
pins: 1 GND (power), 2 VCCO (power), 3 I/O0 (io), 4 I/O1 (io), 5 I/O2 (io), 6 I/O3 (io), 7 I/O4 (io), 8 I/O5 (io), 9 I/O6 (io), 10 I/O7 (io), 11 GND (power), 12 I/O8 (io), 13 I/O9 (io), 14 I/O10/TCK (io), 15 I/O11 (io), 16 I/O12 (io), 17 I/O13 (io), 18 I/O14 (io), 19 I/O15 (io), 20 CLK0/IN0 (in), 21 VCCO (power), 22 GND (power), 23 CLK1/IN1 (in), 24 I/O16 (io), 25 I/O17 (io), 26 I/O18 (io), 27 I/O19 (io), 28 I/O20 (io), 29 I/O21 (io), 30 I/O22 (io), 31 I/O23 (io), 32 GND (power), 33 I/O24 (io), 34 I/O25 (io), 35 I/O26/TMS (io), 36 I/O27 (io), 37 I/O28 (io), 38 I/O29 (io), 39 I/O30 (io), 40 I/O31 (io), 41 IN2 (in), 42 VCCO (power), 43 GND (power), 44 VCC (power), 45 I/O32 (io), 46 I/O33 (io), 47 I/O34 (io), 48 I/O35 (io), 49 I/O36 (io), 50 I/O37 (io), 51 I/O38/TDO (io), 52 I/O39 (io), 53 GND (power), 54 I/O40 (io), 55 I/O41 (io), 56 I/O42 (io), 57 I/O43 (io), 58 I/O44 (io), 59 I/O45 (io), 60 I/O46 (io), 61 I/O47 (io), 62 CLK2/IN3 (in), 63 VCCO (power), 64 GND (power), 65 CLK3/IN4 (in), 66 I/O48 (io), 67 I/O49 (io), 68 I/O50 (io), 69 I/O51 (io), 70 I/O52 (io), 71 I/O53 (io), 72 I/O54/TDI (io), 73 I/O55 (io), 74 GND (power), 75 I/O56 (io), 76 I/O57 (io), 77 I/O58 (io), 78 I/O59 (io), 79 I/O60 (io), 80 I/O61 (io), 81 I/O62 (io), 82 I/O63 (io), 83 JTAGEN (in), 84 VCC (power)

## CY37064VP84-143JC
designator U?
Ultra37000 3.3V, ISR High-Performance CPLD; ComponentAvailability: Obsolete; Published: 11-Dec-2002; LatestRevisionDate: 13-Apr-2006; LatestRevisionNote: IPC-7351 Footprint Added.; DatasheetVersion: 18-Apr-2001; PackageVersion: Mar-2001; PackageReference: J83; Publisher: Altium Limited; PackageDescription: 84-Pin Plastic Leaded Chip Carrier 1.27 mm Pitch; Code_IPC: PLCC-84; ComponentLink1Description: Manufacturer Link; ComponentLink1URL: http://www.cypress.com/; ComponentLink2Description: Datasheet; ComponentLink2URL: http://www.cypress.com/portal/server.pt/gateway/PTARGS_0_2_1524_209_259_43/http%3B/sjapp20.mis.cypress.com%3B7001/publishedcontent/publish/design_resources/datasheets/contents/cy37032p_5.pdf
footprint J83_N (Leaded Chip Carrier, 84-Leads, Body 29.3x29.3mm, Pitch 1.27mm, IPC Medium Density)
footprint J83_L (Leaded Chip Carrier, 84-Leads, Body 29.3x29.3mm, Pitch 1.27mm, IPC High Density)
footprint J83_M (Leaded Chip Carrier, 84-Leads, Body 29.3x29.3mm, Pitch 1.27mm, IPC Low Density)
3D model CY37064VP84-J83 (84-Pin Plastic Leaded Chip Carrier 1.27 mm Pitch)
pins: 1 GND (power), 2 VCCO (power), 3 I/O0 (io), 4 I/O1 (io), 5 I/O2 (io), 6 I/O3 (io), 7 I/O4 (io), 8 I/O5 (io), 9 I/O6 (io), 10 I/O7 (io), 11 GND (power), 12 I/O8 (io), 13 I/O9 (io), 14 I/O10/TCK (io), 15 I/O11 (io), 16 I/O12 (io), 17 I/O13 (io), 18 I/O14 (io), 19 I/O15 (io), 20 CLK0/IN0 (in), 21 VCCO (power), 22 GND (power), 23 CLK1/IN1 (in), 24 I/O16 (io), 25 I/O17 (io), 26 I/O18 (io), 27 I/O19 (io), 28 I/O20 (io), 29 I/O21 (io), 30 I/O22 (io), 31 I/O23 (io), 32 GND (power), 33 I/O24 (io), 34 I/O25 (io), 35 I/O26/TMS (io), 36 I/O27 (io), 37 I/O28 (io), 38 I/O29 (io), 39 I/O30 (io), 40 I/O31 (io), 41 IN2 (in), 42 VCCO (power), 43 GND (power), 44 VCC (power), 45 I/O32 (io), 46 I/O33 (io), 47 I/O34 (io), 48 I/O35 (io), 49 I/O36 (io), 50 I/O37 (io), 51 I/O38/TDO (io), 52 I/O39 (io), 53 GND (power), 54 I/O40 (io), 55 I/O41 (io), 56 I/O42 (io), 57 I/O43 (io), 58 I/O44 (io), 59 I/O45 (io), 60 I/O46 (io), 61 I/O47 (io), 62 CLK2/IN3 (in), 63 VCCO (power), 64 GND (power), 65 CLK3/IN4 (in), 66 I/O48 (io), 67 I/O49 (io), 68 I/O50 (io), 69 I/O51 (io), 70 I/O52 (io), 71 I/O53 (io), 72 I/O54/TDI (io), 73 I/O55 (io), 74 GND (power), 75 I/O56 (io), 76 I/O57 (io), 77 I/O58 (io), 78 I/O59 (io), 79 I/O60 (io), 80 I/O61 (io), 81 I/O62 (io), 82 I/O63 (io), 83 JTAGEN (in), 84 VCC (power)

## CY37064VP100-100AC
designator U?
Ultra37000 3.3V, ISR High-Performance CPLD; Published: 11-Dec-2002; LatestRevisionDate: 13-Apr-2006; LatestRevisionNote: IPC-7351 Footprint Added.; DatasheetVersion: 18-Apr-2001; PackageVersion: Mar-2001; PackageReference: A100; Publisher: Altium Limited; PackageDescription: 100-Pin Thin Quad Flat Pack 0.5 mm Pitch; ComponentLink1Description: Manufacturer Link; ComponentLink1URL: http://www.cypress.com/; ComponentLink2Description: Datasheet; ComponentLink2URL: http://www.cypress.com/portal/server.pt/gateway/PTARGS_0_2_1524_209_259_43/http%3B/sjapp20.mis.cypress.com%3B7001/publishedcontent/publish/design_resources/datasheets/contents/cy37032p_5.pdf
footprint A100_N (Thin QFP, 100-Leads, Body 14x14mm, Pitch 0.5mm, IPC Medium Density)
footprint A100_L (Thin QFP, 100-Leads, Body 14x14mm, Pitch 0.5mm, IPC High Density)
footprint A100_M (Thin QFP, 100-Leads, Body 14x14mm, Pitch 0.5mm, IPC Low Density)
3D model CY37064VP100-A100 (100-Pin Thin Quad Flat Pack 0.5 mm Pitch)
part A pins: 3 I/O8 (io), 4 I/O9 (io), 5 I/O10 (io), 6 I/O11 (io), 7 I/O12 (io), 8 I/O13 (io), 9 I/O14 (io), 10 I/O15 (io), 16 I/O16 (io), 17 I/O17 (io), 18 I/O18 (io), 19 I/O19 (io), 20 I/O20 (io), 21 I/O21 (io), 22 I/O22 (io), 23 I/O23 (io), 28 I/O24 (io), 29 I/O25 (io), 30 I/O26 (io), 31 I/O27 (io), 32 I/O28 (io), 33 I/O29 (io), 34 I/O30 (io), 35 I/O31 (io), 41 I/O32 (io), 42 I/O33 (io), 43 I/O34 (io), 44 I/O35 (io), 45 I/O36 (io), 46 I/O37 (io), 47 I/O38 (io), 48 I/O39 (io), 53 I/O40 (io), 54 I/O41 (io), 55 I/O42 (io), 56 I/O43 (io), 57 I/O44 (io), 58 I/O45 (io), 59 I/O46 (io), 60 I/O47 (io), 66 I/O48 (io), 67 I/O49 (io), 68 I/O50 (io), 69 I/O51 (io), 70 I/O52 (io), 71 I/O53 (io), 72 I/O54 (io), 73 I/O55 (io), 78 I/O56 (io), 79 I/O57 (io), 80 I/O58 (io), 81 I/O59 (io), 82 I/O60 (io), 83 I/O61 (io), 84 I/O62 (io), 85 I/O63 (io), 91 I/O0 (io), 92 I/O1 (io), 93 I/O2 (io), 94 I/O3 (io), 95 I/O4 (io), 96 I/O5 (io), 97 I/O6 (io), 98 I/O7 (io)
part B pins: 1 TCK (in), 2 GND (power), 11 CLK0/IN0 (in), 12 VCCO (power), 13 NC, 14 GND (power), 15 CLK1/IN1 (in), 24 VCCO (power), 25 NC, 26 TMS (in), 27 GND (power), 36 IN2 (in), 37 VCCO (power), 38 NC, 39 GND (power), 40 VCC (power), 49 VCCO (power), 50 TDO (out), 51 NC, 52 GND (power), 61 CLK2/IN3 (in), 62 VCCO (power), 63 NC, 64 GND (power), 65 CLK3/IN4 (in), 74 VCCO (power), 75 TDI (in), 76 NC, 77 GND (power), 86 NC, 87 VCC (power), 88 NC, 89 GND (power), 90 VCCO (power), 99 VCCO (power), 100 NC
part A text: Block D; Block A; Block C; Block B

## CY37064VP100-100AI
designator U?
Ultra37000 3.3V, ISR High-Performance CPLD; Published: 11-Dec-2002; LatestRevisionDate: 13-Apr-2006; LatestRevisionNote: IPC-7351 Footprint Added.; DatasheetVersion: 18-Apr-2001; PackageVersion: Mar-2001; PackageReference: A100; Publisher: Altium Limited; PackageDescription: 100-Pin Thin Quad Flat Pack 0.5 mm Pitch; ComponentLink1Description: Manufacturer Link; ComponentLink1URL: http://www.cypress.com/; ComponentLink2Description: Datasheet; ComponentLink2URL: http://www.cypress.com/portal/server.pt/gateway/PTARGS_0_2_1524_209_259_43/http%3B/sjapp20.mis.cypress.com%3B7001/publishedcontent/publish/design_resources/datasheets/contents/cy37032p_5.pdf
footprint A100_N (Thin QFP, 100-Leads, Body 14x14mm, Pitch 0.5mm, IPC Medium Density)
footprint A100_L (Thin QFP, 100-Leads, Body 14x14mm, Pitch 0.5mm, IPC High Density)
footprint A100_M (Thin QFP, 100-Leads, Body 14x14mm, Pitch 0.5mm, IPC Low Density)
3D model CY37064VP100-A100 (100-Pin Thin Quad Flat Pack 0.5 mm Pitch)
part A pins: 3 I/O8 (io), 4 I/O9 (io), 5 I/O10 (io), 6 I/O11 (io), 7 I/O12 (io), 8 I/O13 (io), 9 I/O14 (io), 10 I/O15 (io), 16 I/O16 (io), 17 I/O17 (io), 18 I/O18 (io), 19 I/O19 (io), 20 I/O20 (io), 21 I/O21 (io), 22 I/O22 (io), 23 I/O23 (io), 28 I/O24 (io), 29 I/O25 (io), 30 I/O26 (io), 31 I/O27 (io), 32 I/O28 (io), 33 I/O29 (io), 34 I/O30 (io), 35 I/O31 (io), 41 I/O32 (io), 42 I/O33 (io), 43 I/O34 (io), 44 I/O35 (io), 45 I/O36 (io), 46 I/O37 (io), 47 I/O38 (io), 48 I/O39 (io), 53 I/O40 (io), 54 I/O41 (io), 55 I/O42 (io), 56 I/O43 (io), 57 I/O44 (io), 58 I/O45 (io), 59 I/O46 (io), 60 I/O47 (io), 66 I/O48 (io), 67 I/O49 (io), 68 I/O50 (io), 69 I/O51 (io), 70 I/O52 (io), 71 I/O53 (io), 72 I/O54 (io), 73 I/O55 (io), 78 I/O56 (io), 79 I/O57 (io), 80 I/O58 (io), 81 I/O59 (io), 82 I/O60 (io), 83 I/O61 (io), 84 I/O62 (io), 85 I/O63 (io), 91 I/O0 (io), 92 I/O1 (io), 93 I/O2 (io), 94 I/O3 (io), 95 I/O4 (io), 96 I/O5 (io), 97 I/O6 (io), 98 I/O7 (io)
part B pins: 1 TCK (in), 2 GND (power), 11 CLK0/IN0 (in), 12 VCCO (power), 13 NC, 14 GND (power), 15 CLK1/IN1 (in), 24 VCCO (power), 25 NC, 26 TMS (in), 27 GND (power), 36 IN2 (in), 37 VCCO (power), 38 NC, 39 GND (power), 40 VCC (power), 49 VCCO (power), 50 TDO (out), 51 NC, 52 GND (power), 61 CLK2/IN3 (in), 62 VCCO (power), 63 NC, 64 GND (power), 65 CLK3/IN4 (in), 74 VCCO (power), 75 TDI (in), 76 NC, 77 GND (power), 86 NC, 87 VCC (power), 88 NC, 89 GND (power), 90 VCCO (power), 99 VCCO (power), 100 NC
part A text: Block D; Block A; Block C; Block B

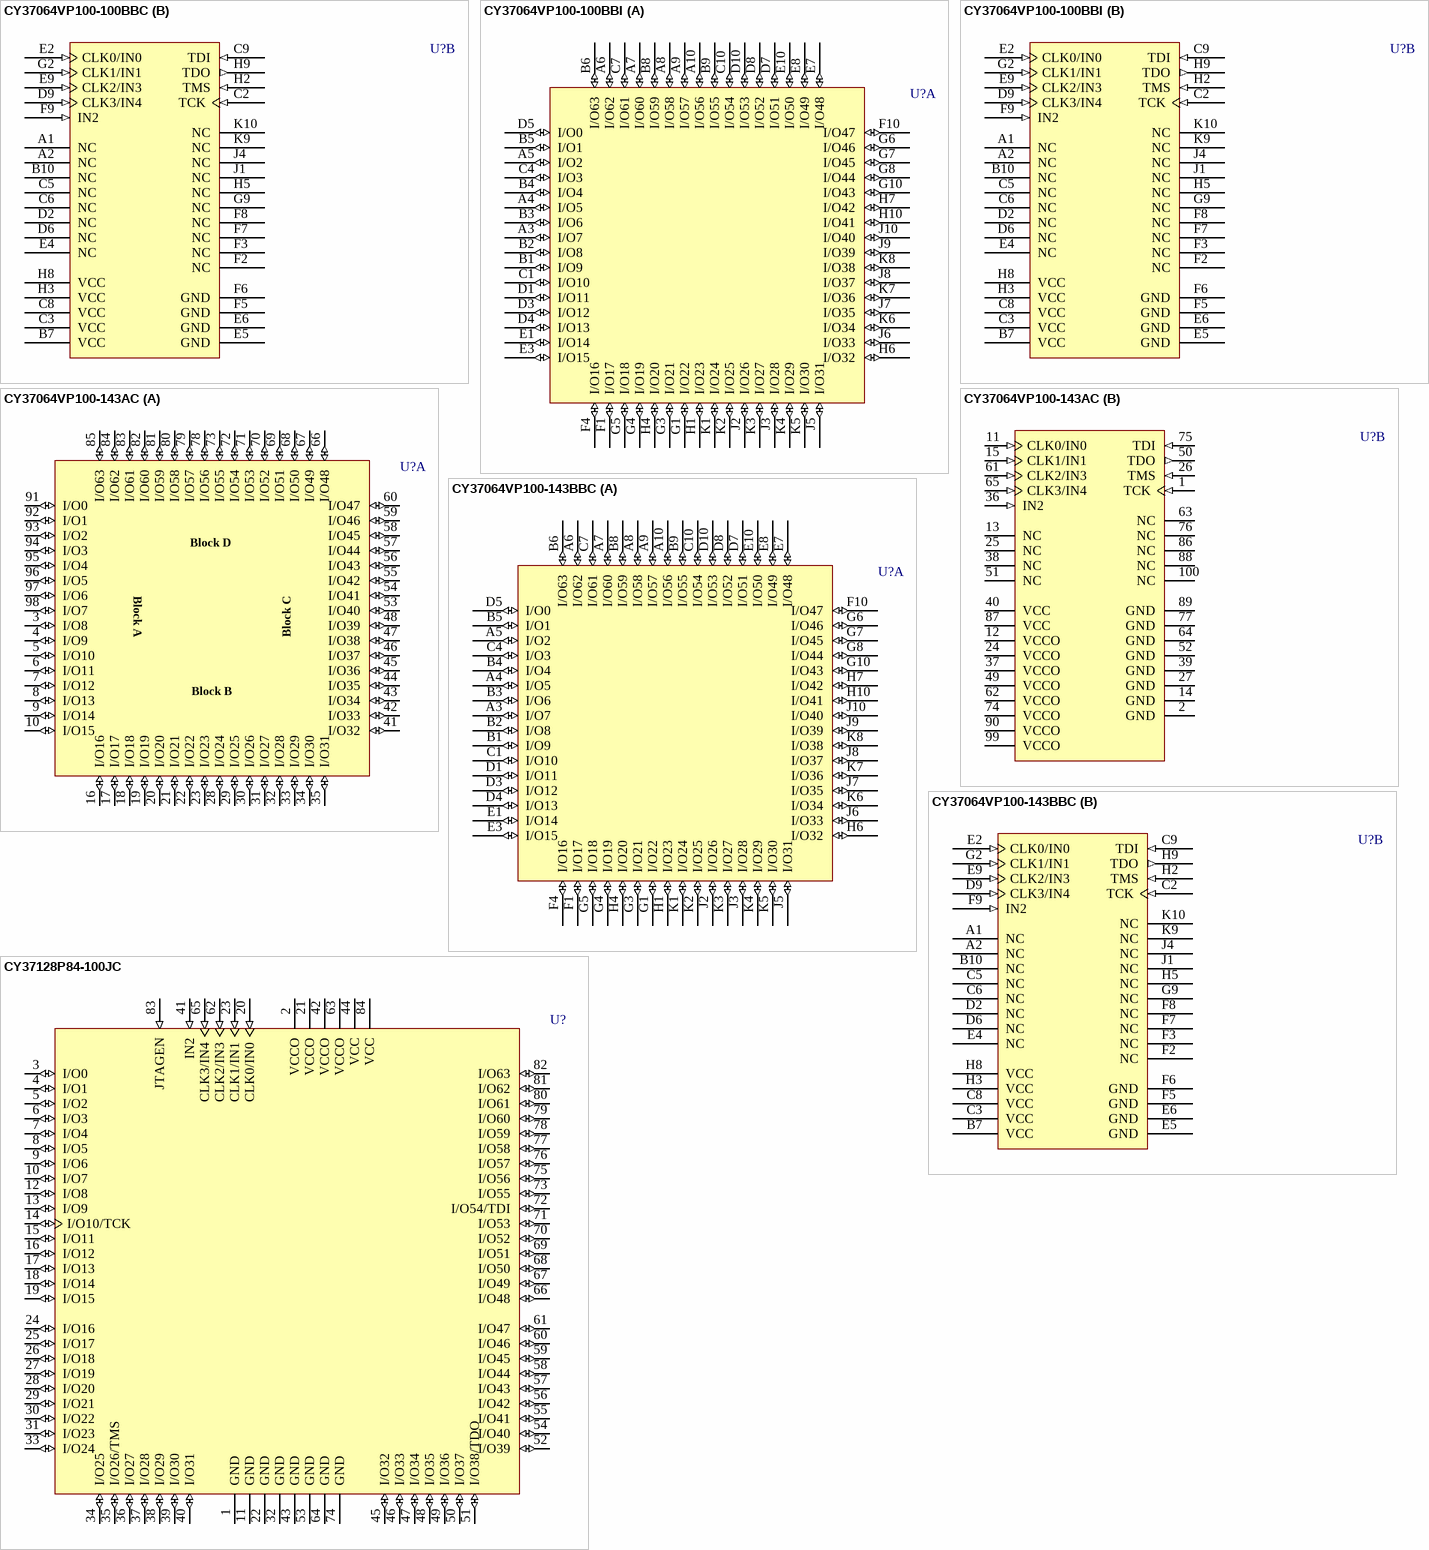
[diagram p13: symbols CY37064VP100-100BBC to CY37128P84-100JC]

## CY37064VP100-100BBC
designator U?
Ultra37000 3.3V, ISR High-Performance CPLD; Published: 11-Dec-2002; LatestRevisionDate: 13-Apr-2006; LatestRevisionNote: IPC-7351 Footprint Added.; DatasheetVersion: 18-Apr-2001; PackageVersion: Mar-2001; PackageReference: BB100; Publisher: Altium Limited; PackageDescription: 100-Ball Thin Ball Grid Array 1 mm Pitch; ComponentLink1Description: Manufacturer Link; ComponentLink1URL: http://www.cypress.com/; ComponentLink2Description: Datasheet; ComponentLink2URL: http://www.cypress.com/portal/server.pt/gateway/PTARGS_0_2_1524_209_259_43/http%3B/sjapp20.mis.cypress.com%3B7001/publishedcontent/publish/design_resources/datasheets/contents/cy37032p_5.pdf
footprint BB100 (BGA, 100-Leads, Body 11x11mm, Pitch 1mm)
3D model CY37064VP100-BB100 (100-Ball Thin Ball Grid Array 1 mm Pitch)
part A pins: A3 I/O7 (io), A4 I/O5 (io), A5 I/O2 (io), A6 I/O62 (io), A7 I/O60 (io), A8 I/O58 (io), A9 I/O57 (io), A10 I/O56 (io), B1 I/O9 (io), B2 I/O8 (io), B3 I/O6 (io), B4 I/O4 (io), B5 I/O1 (io), B6 I/O63 (io), B8 I/O59 (io), B9 I/O55 (io), C1 I/O10 (io), C4 I/O3 (io), C7 I/O61 (io), C10 I/O54 (io), D1 I/O11 (io), D3 I/O12 (io), D4 I/O13 (io), D5 I/O0 (io), D7 I/O51 (io), D8 I/O52 (io), D10 I/O53 (io), E1 I/O14 (io), E3 I/O15 (io), E7 I/O48 (io), E8 I/O49 (io), E10 I/O50 (io), F1 I/O17 (io), F4 I/O16 (io), F10 I/O47 (io), G1 I/O22 (io), G3 I/O21 (io), G4 I/O19 (io), G5 I/O18 (io), G6 I/O46 (io), G7 I/O45 (io), G8 I/O44 (io), G10 I/O43 (io), H1 I/O23 (io), H4 I/O20 (io), H6 I/O32 (io), H7 I/O42 (io), H10 I/O41 (io), J2 I/O26 (io), J3 I/O28 (io), J5 I/O31 (io), J6 I/O33 (io), J7 I/O35 (io), J8 I/O37 (io), J9 I/O39 (io), J10 I/O40 (io), K1 I/O24 (io), K2 I/O25 (io), K3 I/O27 (io), K4 I/O29 (io), K5 I/O30 (io), K6 I/O34 (io), K7 I/O36 (io), K8 I/O38 (io)
part B pins: A1 NC, A2 NC, B7 VCC (power), B10 NC, C2 TCK (in), C3 VCC (power), C5 NC, C6 NC, C8 VCC (power), C9 TDI (in), D2 NC, D6 NC, D9 CLK3/IN4 (in), E2 CLK0/IN0 (in), E4 NC, E5 GND (power), E6 GND (power), E9 CLK2/IN3 (in), F2 NC, F3 NC, F5 GND (power), F6 GND (power), F7 NC, F8 NC, F9 IN2 (in), G2 CLK1/IN1 (in), G9 NC, H2 TMS (in), H3 VCC (power), H5 NC, H8 VCC (power), H9 TDO (out), J1 NC, J4 NC, K9 NC, K10 NC

## CY37064VP100-100BBI
designator U?
Ultra37000 3.3V, ISR High-Performance CPLD; Published: 11-Dec-2002; LatestRevisionDate: 13-Apr-2006; LatestRevisionNote: IPC-7351 Footprint Added.; DatasheetVersion: 18-Apr-2001; PackageVersion: Mar-2001; PackageReference: BB100; Publisher: Altium Limited; PackageDescription: 100-Ball Thin Ball Grid Array 1 mm Pitch; ComponentLink1Description: Manufacturer Link; ComponentLink1URL: http://www.cypress.com/; ComponentLink2Description: Datasheet; ComponentLink2URL: http://www.cypress.com/portal/server.pt/gateway/PTARGS_0_2_1524_209_259_43/http%3B/sjapp20.mis.cypress.com%3B7001/publishedcontent/publish/design_resources/datasheets/contents/cy37032p_5.pdf
footprint BB100 (BGA, 100-Leads, Body 11x11mm, Pitch 1mm)
3D model CY37064VP100-BB100 (100-Ball Thin Ball Grid Array 1 mm Pitch)
part A pins: A3 I/O7 (io), A4 I/O5 (io), A5 I/O2 (io), A6 I/O62 (io), A7 I/O60 (io), A8 I/O58 (io), A9 I/O57 (io), A10 I/O56 (io), B1 I/O9 (io), B2 I/O8 (io), B3 I/O6 (io), B4 I/O4 (io), B5 I/O1 (io), B6 I/O63 (io), B8 I/O59 (io), B9 I/O55 (io), C1 I/O10 (io), C4 I/O3 (io), C7 I/O61 (io), C10 I/O54 (io), D1 I/O11 (io), D3 I/O12 (io), D4 I/O13 (io), D5 I/O0 (io), D7 I/O51 (io), D8 I/O52 (io), D10 I/O53 (io), E1 I/O14 (io), E3 I/O15 (io), E7 I/O48 (io), E8 I/O49 (io), E10 I/O50 (io), F1 I/O17 (io), F4 I/O16 (io), F10 I/O47 (io), G1 I/O22 (io), G3 I/O21 (io), G4 I/O19 (io), G5 I/O18 (io), G6 I/O46 (io), G7 I/O45 (io), G8 I/O44 (io), G10 I/O43 (io), H1 I/O23 (io), H4 I/O20 (io), H6 I/O32 (io), H7 I/O42 (io), H10 I/O41 (io), J2 I/O26 (io), J3 I/O28 (io), J5 I/O31 (io), J6 I/O33 (io), J7 I/O35 (io), J8 I/O37 (io), J9 I/O39 (io), J10 I/O40 (io), K1 I/O24 (io), K2 I/O25 (io), K3 I/O27 (io), K4 I/O29 (io), K5 I/O30 (io), K6 I/O34 (io), K7 I/O36 (io), K8 I/O38 (io)
part B pins: A1 NC, A2 NC, B7 VCC (power), B10 NC, C2 TCK (in), C3 VCC (power), C5 NC, C6 NC, C8 VCC (power), C9 TDI (in), D2 NC, D6 NC, D9 CLK3/IN4 (in), E2 CLK0/IN0 (in), E4 NC, E5 GND (power), E6 GND (power), E9 CLK2/IN3 (in), F2 NC, F3 NC, F5 GND (power), F6 GND (power), F7 NC, F8 NC, F9 IN2 (in), G2 CLK1/IN1 (in), G9 NC, H2 TMS (in), H3 VCC (power), H5 NC, H8 VCC (power), H9 TDO (out), J1 NC, J4 NC, K9 NC, K10 NC

## CY37064VP100-143AC
designator U?
Ultra37000 3.3V, ISR High-Performance CPLD; Published: 11-Dec-2002; LatestRevisionDate: 13-Apr-2006; LatestRevisionNote: IPC-7351 Footprint Added.; DatasheetVersion: 18-Apr-2001; PackageVersion: Mar-2001; PackageReference: A100; Publisher: Altium Limited; PackageDescription: 100-Pin Thin Quad Flat Pack 0.5 mm Pitch; ComponentLink1Description: Manufacturer Link; ComponentLink1URL: http://www.cypress.com/; ComponentLink2Description: Datasheet; ComponentLink2URL: http://www.cypress.com/portal/server.pt/gateway/PTARGS_0_2_1524_209_259_43/http%3B/sjapp20.mis.cypress.com%3B7001/publishedcontent/publish/design_resources/datasheets/contents/cy37032p_5.pdf
footprint A100_N (Thin QFP, 100-Leads, Body 14x14mm, Pitch 0.5mm, IPC Medium Density)
footprint A100_L (Thin QFP, 100-Leads, Body 14x14mm, Pitch 0.5mm, IPC High Density)
footprint A100_M (Thin QFP, 100-Leads, Body 14x14mm, Pitch 0.5mm, IPC Low Density)
3D model CY37064VP100-A100 (100-Pin Thin Quad Flat Pack 0.5 mm Pitch)
part A pins: 3 I/O8 (io), 4 I/O9 (io), 5 I/O10 (io), 6 I/O11 (io), 7 I/O12 (io), 8 I/O13 (io), 9 I/O14 (io), 10 I/O15 (io), 16 I/O16 (io), 17 I/O17 (io), 18 I/O18 (io), 19 I/O19 (io), 20 I/O20 (io), 21 I/O21 (io), 22 I/O22 (io), 23 I/O23 (io), 28 I/O24 (io), 29 I/O25 (io), 30 I/O26 (io), 31 I/O27 (io), 32 I/O28 (io), 33 I/O29 (io), 34 I/O30 (io), 35 I/O31 (io), 41 I/O32 (io), 42 I/O33 (io), 43 I/O34 (io), 44 I/O35 (io), 45 I/O36 (io), 46 I/O37 (io), 47 I/O38 (io), 48 I/O39 (io), 53 I/O40 (io), 54 I/O41 (io), 55 I/O42 (io), 56 I/O43 (io), 57 I/O44 (io), 58 I/O45 (io), 59 I/O46 (io), 60 I/O47 (io), 66 I/O48 (io), 67 I/O49 (io), 68 I/O50 (io), 69 I/O51 (io), 70 I/O52 (io), 71 I/O53 (io), 72 I/O54 (io), 73 I/O55 (io), 78 I/O56 (io), 79 I/O57 (io), 80 I/O58 (io), 81 I/O59 (io), 82 I/O60 (io), 83 I/O61 (io), 84 I/O62 (io), 85 I/O63 (io), 91 I/O0 (io), 92 I/O1 (io), 93 I/O2 (io), 94 I/O3 (io), 95 I/O4 (io), 96 I/O5 (io), 97 I/O6 (io), 98 I/O7 (io)
part B pins: 1 TCK (in), 2 GND (power), 11 CLK0/IN0 (in), 12 VCCO (power), 13 NC, 14 GND (power), 15 CLK1/IN1 (in), 24 VCCO (power), 25 NC, 26 TMS (in), 27 GND (power), 36 IN2 (in), 37 VCCO (power), 38 NC, 39 GND (power), 40 VCC (power), 49 VCCO (power), 50 TDO (out), 51 NC, 52 GND (power), 61 CLK2/IN3 (in), 62 VCCO (power), 63 NC, 64 GND (power), 65 CLK3/IN4 (in), 74 VCCO (power), 75 TDI (in), 76 NC, 77 GND (power), 86 NC, 87 VCC (power), 88 NC, 89 GND (power), 90 VCCO (power), 99 VCCO (power), 100 NC
part A text: Block D; Block A; Block C; Block B

## CY37064VP100-143BBC
designator U?
Ultra37000 3.3V, ISR High-Performance CPLD; Published: 11-Dec-2002; LatestRevisionDate: 13-Apr-2006; LatestRevisionNote: IPC-7351 Footprint Added.; DatasheetVersion: 18-Apr-2001; PackageVersion: Mar-2001; PackageReference: BB100; Publisher: Altium Limited; PackageDescription: 100-Ball Thin Ball Grid Array 1 mm Pitch; ComponentLink1Description: Manufacturer Link; ComponentLink1URL: http://www.cypress.com/; ComponentLink2Description: Datasheet; ComponentLink2URL: http://www.cypress.com/portal/server.pt/gateway/PTARGS_0_2_1524_209_259_43/http%3B/sjapp20.mis.cypress.com%3B7001/publishedcontent/publish/design_resources/datasheets/contents/cy37032p_5.pdf
footprint BB100 (BGA, 100-Leads, Body 11x11mm, Pitch 1mm)
3D model CY37064VP100-BB100 (100-Ball Thin Ball Grid Array 1 mm Pitch)
part A pins: A3 I/O7 (io), A4 I/O5 (io), A5 I/O2 (io), A6 I/O62 (io), A7 I/O60 (io), A8 I/O58 (io), A9 I/O57 (io), A10 I/O56 (io), B1 I/O9 (io), B2 I/O8 (io), B3 I/O6 (io), B4 I/O4 (io), B5 I/O1 (io), B6 I/O63 (io), B8 I/O59 (io), B9 I/O55 (io), C1 I/O10 (io), C4 I/O3 (io), C7 I/O61 (io), C10 I/O54 (io), D1 I/O11 (io), D3 I/O12 (io), D4 I/O13 (io), D5 I/O0 (io), D7 I/O51 (io), D8 I/O52 (io), D10 I/O53 (io), E1 I/O14 (io), E3 I/O15 (io), E7 I/O48 (io), E8 I/O49 (io), E10 I/O50 (io), F1 I/O17 (io), F4 I/O16 (io), F10 I/O47 (io), G1 I/O22 (io), G3 I/O21 (io), G4 I/O19 (io), G5 I/O18 (io), G6 I/O46 (io), G7 I/O45 (io), G8 I/O44 (io), G10 I/O43 (io), H1 I/O23 (io), H4 I/O20 (io), H6 I/O32 (io), H7 I/O42 (io), H10 I/O41 (io), J2 I/O26 (io), J3 I/O28 (io), J5 I/O31 (io), J6 I/O33 (io), J7 I/O35 (io), J8 I/O37 (io), J9 I/O39 (io), J10 I/O40 (io), K1 I/O24 (io), K2 I/O25 (io), K3 I/O27 (io), K4 I/O29 (io), K5 I/O30 (io), K6 I/O34 (io), K7 I/O36 (io), K8 I/O38 (io)
part B pins: A1 NC, A2 NC, B7 VCC (power), B10 NC, C2 TCK (in), C3 VCC (power), C5 NC, C6 NC, C8 VCC (power), C9 TDI (in), D2 NC, D6 NC, D9 CLK3/IN4 (in), E2 CLK0/IN0 (in), E4 NC, E5 GND (power), E6 GND (power), E9 CLK2/IN3 (in), F2 NC, F3 NC, F5 GND (power), F6 GND (power), F7 NC, F8 NC, F9 IN2 (in), G2 CLK1/IN1 (in), G9 NC, H2 TMS (in), H3 VCC (power), H5 NC, H8 VCC (power), H9 TDO (out), J1 NC, J4 NC, K9 NC, K10 NC

## CY37128P84-100JC
designator U?
Ultra37000 5V, ISR High-Performance CPLD; Published: 11-Dec-2002; LatestRevisionDate: 13-Apr-2006; LatestRevisionNote: IPC-7351 Footprint Added.; DatasheetVersion: 18-Apr-2001; PackageVersion: Mar-2001; PackageReference: J83; Publisher: Altium Limited; PackageDescription: 84-Pin Plastic Leaded Chip Carrier 1.27 mm Pitch; Code_IPC: PLCC-84; ComponentLink1Description: Manufacturer Link; ComponentLink1URL: http://www.cypress.com/; ComponentLink2Description: Datasheet; ComponentLink2URL: http://www.cypress.com/portal/server.pt/gateway/PTARGS_0_2_1524_209_259_43/http%3B/sjapp20.mis.cypress.com%3B7001/publishedcontent/publish/design_resources/datasheets/contents/cy37032p_5.pdf
footprint J83_N (Leaded Chip Carrier, 84-Leads, Body 29.3x29.3mm, Pitch 1.27mm, IPC Medium Density)
footprint J83_L (Leaded Chip Carrier, 84-Leads, Body 29.3x29.3mm, Pitch 1.27mm, IPC High Density)
footprint J83_M (Leaded Chip Carrier, 84-Leads, Body 29.3x29.3mm, Pitch 1.27mm, IPC Low Density)
3D model CY37128P84-J83 (84-Pin Plastic Leaded Chip Carrier 1.27 mm Pitch)
pins: 1 GND (power), 2 VCCO (power), 3 I/O0 (io), 4 I/O1 (io), 5 I/O2 (io), 6 I/O3 (io), 7 I/O4 (io), 8 I/O5 (io), 9 I/O6 (io), 10 I/O7 (io), 11 GND (power), 12 I/O8 (io), 13 I/O9 (io), 14 I/O10/TCK (io), 15 I/O11 (io), 16 I/O12 (io), 17 I/O13 (io), 18 I/O14 (io), 19 I/O15 (io), 20 CLK0/IN0 (in), 21 VCCO (power), 22 GND (power), 23 CLK1/IN1 (in), 24 I/O16 (io), 25 I/O17 (io), 26 I/O18 (io), 27 I/O19 (io), 28 I/O20 (io), 29 I/O21 (io), 30 I/O22 (io), 31 I/O23 (io), 32 GND (power), 33 I/O24 (io), 34 I/O25 (io), 35 I/O26/TMS (io), 36 I/O27 (io), 37 I/O28 (io), 38 I/O29 (io), 39 I/O30 (io), 40 I/O31 (io), 41 IN2 (in), 42 VCCO (power), 43 GND (power), 44 VCC (power), 45 I/O32 (io), 46 I/O33 (io), 47 I/O34 (io), 48 I/O35 (io), 49 I/O36 (io), 50 I/O37 (io), 51 I/O38/TDO (io), 52 I/O39 (io), 53 GND (power), 54 I/O40 (io), 55 I/O41 (io), 56 I/O42 (io), 57 I/O43 (io), 58 I/O44 (io), 59 I/O45 (io), 60 I/O46 (io), 61 I/O47 (io), 62 CLK2/IN3 (in), 63 VCCO (power), 64 GND (power), 65 CLK3/IN4 (in), 66 I/O48 (io), 67 I/O49 (io), 68 I/O50 (io), 69 I/O51 (io), 70 I/O52 (io), 71 I/O53 (io), 72 I/O54/TDI (io), 73 I/O55 (io), 74 GND (power), 75 I/O56 (io), 76 I/O57 (io), 77 I/O58 (io), 78 I/O59 (io), 79 I/O60 (io), 80 I/O61 (io), 81 I/O62 (io), 82 I/O63 (io), 83 JTAGEN (in), 84 VCC (power)

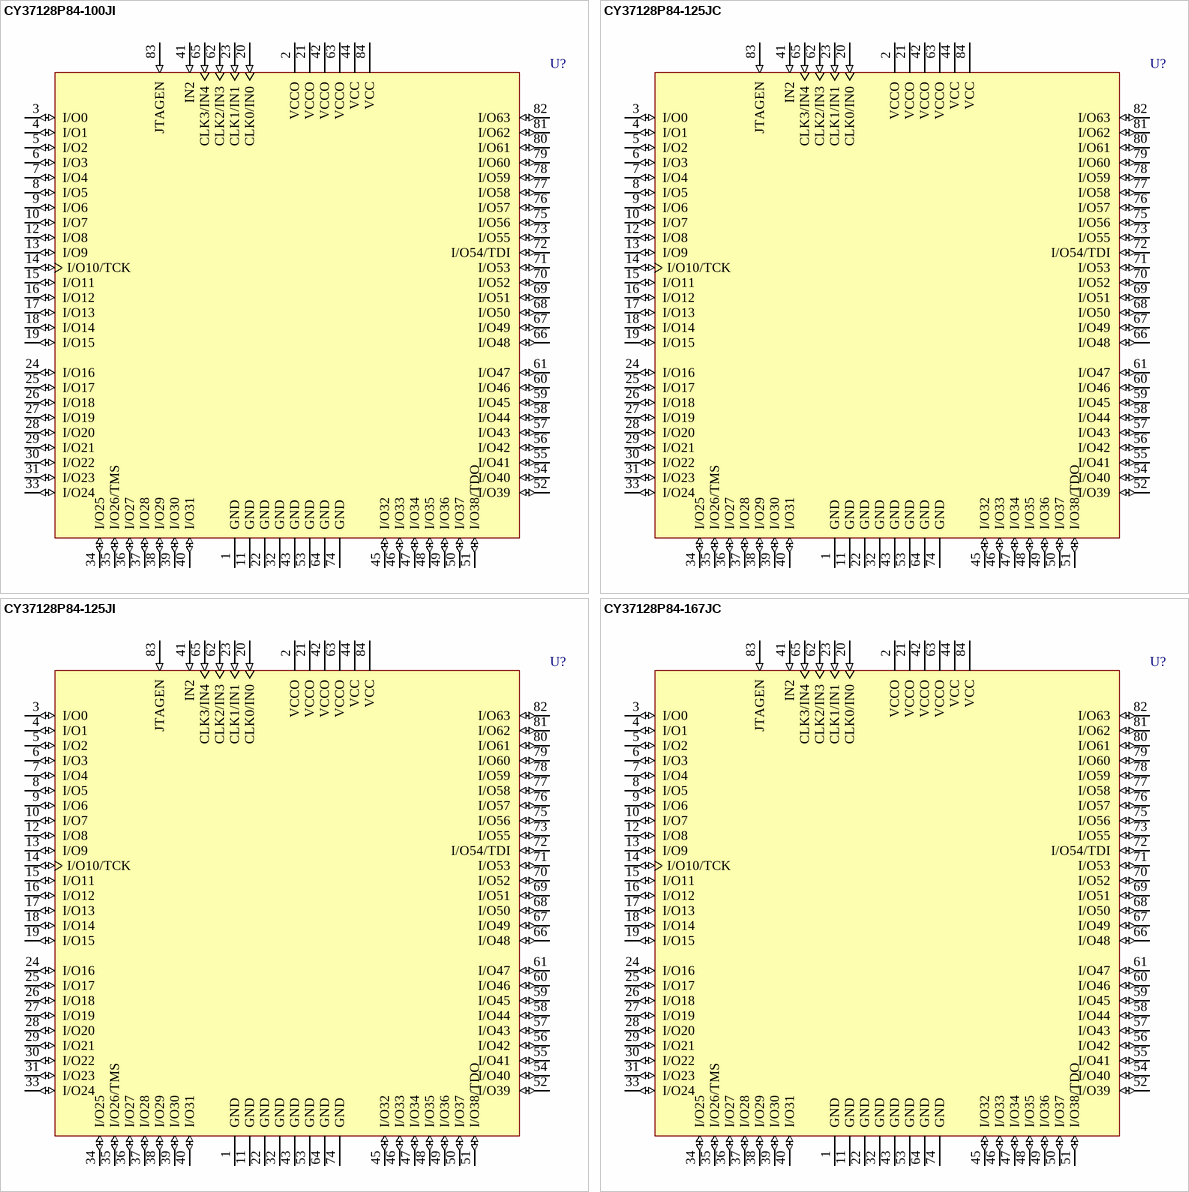
[diagram p14: symbols CY37128P84-100JI to CY37128P84-167JC]

## CY37128P84-100JI
designator U?
Ultra37000 5V, ISR High-Performance CPLD; Published: 11-Dec-2002; LatestRevisionDate: 13-Apr-2006; LatestRevisionNote: IPC-7351 Footprint Added.; DatasheetVersion: 18-Apr-2001; PackageVersion: Mar-2001; PackageReference: J83; Publisher: Altium Limited; PackageDescription: 84-Pin Plastic Leaded Chip Carrier 1.27 mm Pitch; Code_IPC: PLCC-84; ComponentLink1Description: Manufacturer Link; ComponentLink1URL: http://www.cypress.com/; ComponentLink2Description: Datasheet; ComponentLink2URL: http://www.cypress.com/portal/server.pt/gateway/PTARGS_0_2_1524_209_259_43/http%3B/sjapp20.mis.cypress.com%3B7001/publishedcontent/publish/design_resources/datasheets/contents/cy37032p_5.pdf
footprint J83_N (Leaded Chip Carrier, 84-Leads, Body 29.3x29.3mm, Pitch 1.27mm, IPC Medium Density)
footprint J83_L (Leaded Chip Carrier, 84-Leads, Body 29.3x29.3mm, Pitch 1.27mm, IPC High Density)
footprint J83_M (Leaded Chip Carrier, 84-Leads, Body 29.3x29.3mm, Pitch 1.27mm, IPC Low Density)
3D model CY37128P84-J83 (84-Pin Plastic Leaded Chip Carrier 1.27 mm Pitch)
pins: 1 GND (power), 2 VCCO (power), 3 I/O0 (io), 4 I/O1 (io), 5 I/O2 (io), 6 I/O3 (io), 7 I/O4 (io), 8 I/O5 (io), 9 I/O6 (io), 10 I/O7 (io), 11 GND (power), 12 I/O8 (io), 13 I/O9 (io), 14 I/O10/TCK (io), 15 I/O11 (io), 16 I/O12 (io), 17 I/O13 (io), 18 I/O14 (io), 19 I/O15 (io), 20 CLK0/IN0 (in), 21 VCCO (power), 22 GND (power), 23 CLK1/IN1 (in), 24 I/O16 (io), 25 I/O17 (io), 26 I/O18 (io), 27 I/O19 (io), 28 I/O20 (io), 29 I/O21 (io), 30 I/O22 (io), 31 I/O23 (io), 32 GND (power), 33 I/O24 (io), 34 I/O25 (io), 35 I/O26/TMS (io), 36 I/O27 (io), 37 I/O28 (io), 38 I/O29 (io), 39 I/O30 (io), 40 I/O31 (io), 41 IN2 (in), 42 VCCO (power), 43 GND (power), 44 VCC (power), 45 I/O32 (io), 46 I/O33 (io), 47 I/O34 (io), 48 I/O35 (io), 49 I/O36 (io), 50 I/O37 (io), 51 I/O38/TDO (io), 52 I/O39 (io), 53 GND (power), 54 I/O40 (io), 55 I/O41 (io), 56 I/O42 (io), 57 I/O43 (io), 58 I/O44 (io), 59 I/O45 (io), 60 I/O46 (io), 61 I/O47 (io), 62 CLK2/IN3 (in), 63 VCCO (power), 64 GND (power), 65 CLK3/IN4 (in), 66 I/O48 (io), 67 I/O49 (io), 68 I/O50 (io), 69 I/O51 (io), 70 I/O52 (io), 71 I/O53 (io), 72 I/O54/TDI (io), 73 I/O55 (io), 74 GND (power), 75 I/O56 (io), 76 I/O57 (io), 77 I/O58 (io), 78 I/O59 (io), 79 I/O60 (io), 80 I/O61 (io), 81 I/O62 (io), 82 I/O63 (io), 83 JTAGEN (in), 84 VCC (power)